# Altium schematic symbol library CHIP-Library.SCHLIB: 393 symbols (part 2 of 4)
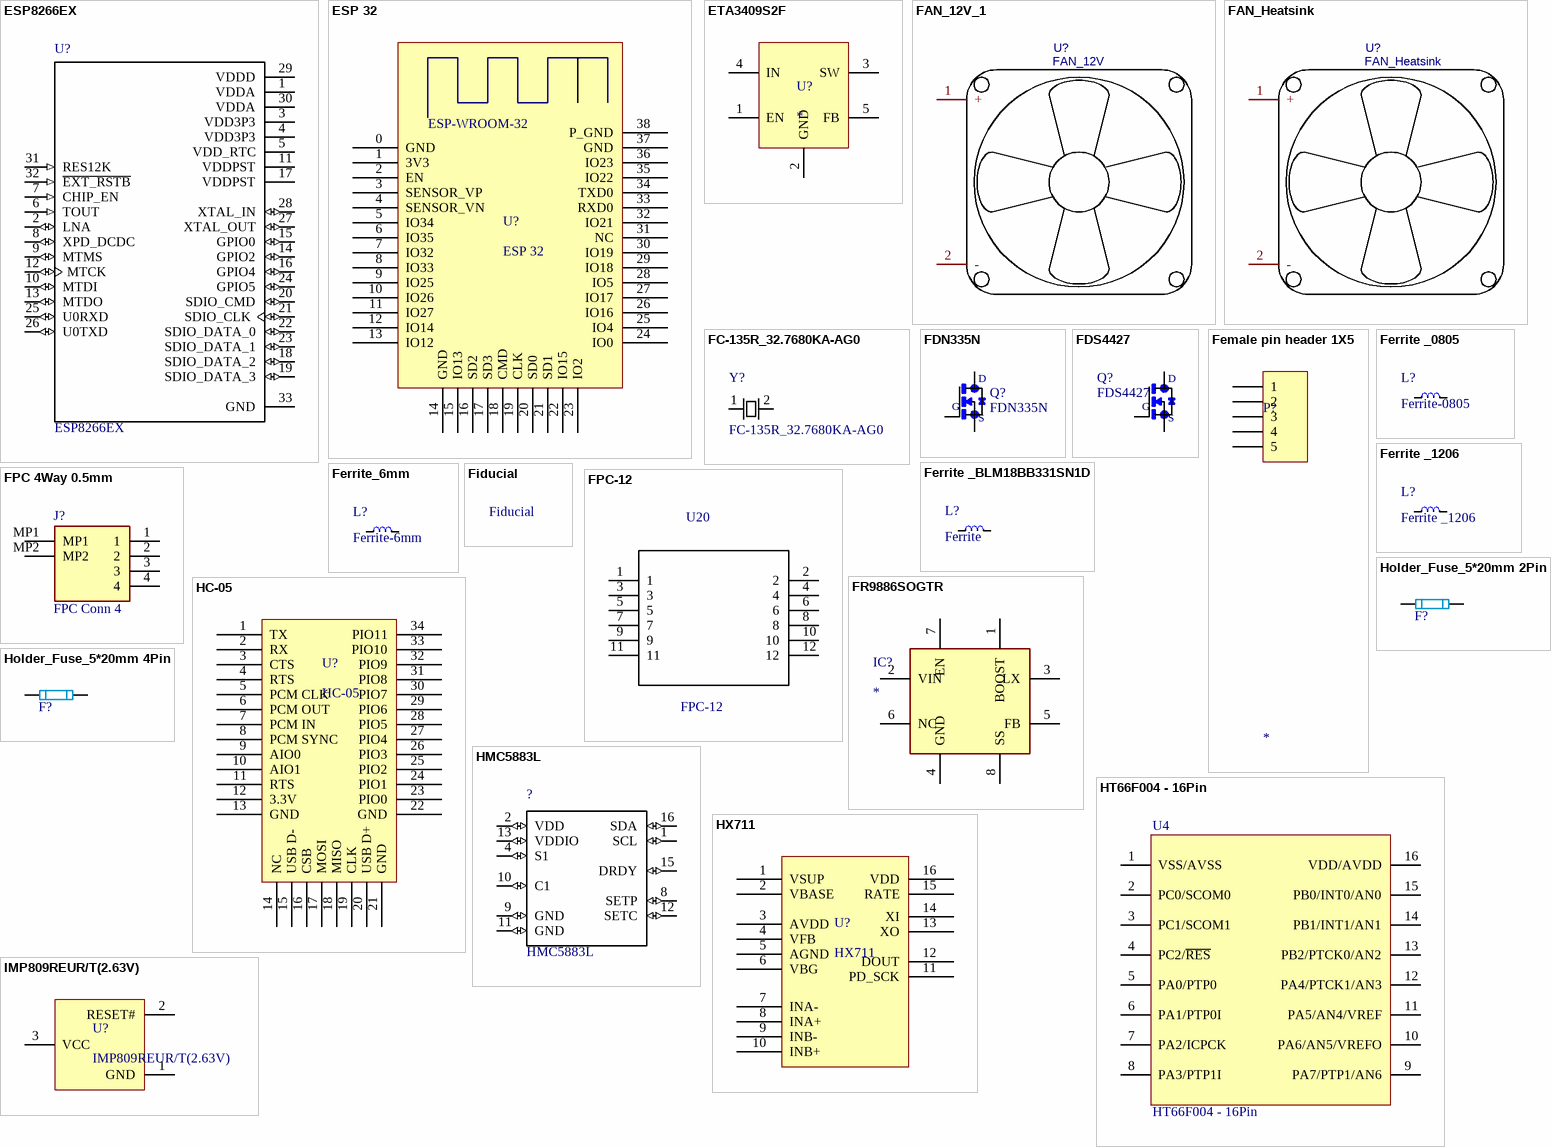
[diagram p16: symbols ESP8266EX to IMP809REUR/T(2.63V)]

## ESP 32
designator U?
footprint ESP 32
pins: 0 GND, 1 3V3, 2 EN, 3 SENSOR_VP, 4 SENSOR_VN, 5 IO34, 6 IO35, 7 IO32, 8 IO33, 9 IO25, 10 IO26, 11 IO27, 12 IO14, 13 IO12, 14 GND, 15 IO13, 16 SD2, 17 SD3, 18 CMD, 19 CLK, 20 SD0, 21 SD1, 22 IO15, 23 IO2, 24 IO0, 25 IO4, 26 IO16, 27 IO17, 28 IO5, 29 IO18, 30 IO19, 31 NC, 32 IO21, 33 RXD0, 34 TXD0, 35 IO22, 36 IO23, 37 GND, 38 P_GND
text: ESP-WROOM-32

## ETA3409S2F
designator U?
3MHz 1.5A/2A High ŋ Step-Down Converter in SOT23-5 Package
footprint SOT-23-5
pins: 1 EN, 2 GND, 3 SW, 4 IN, 5 FB

## FAN_12V_1
designator U?, comment FAN_12V
FAN 12V 40*40*10mm . XH Connector; Contributor: novasilisko; timeStamp: 1467237407; Manufacturer Part: ?; spicePre: U
footprint FAN_Connector XH (FAN_Connector XH 2.54mm)
pins: 1 +, 2 -

## FAN_Heatsink
designator U?
55mm Aluminum Heatsink with Cooling Fan; Contributor: novasilisko; timeStamp: 1467237407; Manufacturer Part: ?; spicePre: U
footprint FAN_Heatsink (55mm Aluminum Heatsink with Cooling Fan)
pins: 1 +, 2 -

## FC-135R_32.7680KA-AG0
designator Y?
Crystal 32.7680khz 7.0pf Smt; MF: EPSON; MP: FC-135R 32.7680KA-AG0; Availability: Unavailable; Price: None; Package: SMD-2 Epson; SnapEDA_Link: https://www.snapeda.com/parts/FC-135R%2032.7680KA-AG0/EPSON/view-part/?ref=snap; Value: *
footprint XTALL 32.76khz
pins: 1, 2

## FDN335N
designator Q?
N-Channel 20 V 0.07 Ohm 2.5 V Specified PowerTrench Mosfet SSOT-3; MF: ON Semiconductor; Price: None; SnapEDA_Link: https://www.snapeda.com/parts/FDN335N/ON%20Semiconductor/view-part/?ref=snap; Availability: Unavailable; MP: FDN335N; Package: SC-59 ON Semiconductor; Value: *
footprint FDN335N
pins: 1 G, 2 S, 3 D

## FDS4427
designator Q?
Check_prices: https://www.snapeda.com/parts/FDS2734/ON%20Semiconductor/view-part/1822193/?ref=eda; SnapEDA_Link: https://www.snapeda.com/parts/FDS2734/ON%20Semiconductor/view-part/1822193/?ref=snap; Value: *
footprint FDS4410
pins: D, G, S

## Female pin header 1X5
designator P?
Female pin header 1*5 2.54mm; LatestRevisionDate: 17-Jul-2002; LatestRevisionNote: Re-released for DXP Platform.; Publisher: Altium Limited
footprint Female pin header 1*5 (2.54MM)
pins: 1, 2, 3, 4, 5

## Ferrite _0805
designator L?, comment Ferrite-0805
BLM Series 0805 330 Ohm 400 mA 0.58 Ohm DCR Surface Mount Ferrite Bead; MF: Murata; MP: BLM18BB331SN1D; Package: 0603 Murata; Price: None; Availability: Unavailable; SnapEDA_Link: https://www.snapeda.com/parts/BLM18BB331SN1D/Murata%20Electronics%20North%20America/view-part/?ref=snap; Value: *
footprint Ferrite-0805
pins: 1, 2

## Ferrite _1206
designator L?
MF: Murata; MP: BLM18BB331SN1D; Package: 0603 Murata; Price: None; Availability: Unavailable; SnapEDA_Link: https://www.snapeda.com/parts/BLM18BB331SN1D/Murata%20Electronics%20North%20America/view-part/?ref=snap; Value: *
footprint FERRITE 1206 (1206)
pins: 1, 2

## Ferrite _BLM18BB331SN1D
designator L?, comment Ferrite
BLM Series 0603 330 Ohm 400 mA 0.58 Ohm DCR Surface Mount Ferrite Bead; MF: Murata; MP: BLM18BB331SN1D; Package: 0603 Murata; Price: None; Availability: Unavailable; SnapEDA_Link: https://www.snapeda.com/parts/BLM18BB331SN1D/Murata%20Electronics%20North%20America/view-part/?ref=snap; Value: *
footprint ferrit 0603
pins: 1, 2

## Ferrite_6mm
designator L?, comment Ferrite-6mm
MF: Murata; MP: BLM18BB331SN1D; Package: 0603 Murata; Price: None; Availability: Unavailable; SnapEDA_Link: https://www.snapeda.com/parts/BLM18BB331SN1D/Murata%20Electronics%20North%20America/view-part/?ref=snap; Value: *
footprint Ferrite_6mm
pins: 1, 2

## Fiducial
designator Q?
MF: Toshiba Semiconductor; MP: TPHR8504PL,L1Q; Package: SOP-8 Toshiba; Price: None; Value: *; SnapEDA_Link: https://www.snapeda.com/parts/TPHR8504PL,L1Q/Toshiba%20Semiconductor%20and%20Storage/view-part/604439/?ref=snap; Availability: Unavailable
footprint Fiducial
footprint Fiducial-2layer

## FPC 4Way 0.5mm
designator J?, comment FPC Conn 4
Molex 52745 0.5mm Pitch 4 Way Straight FPC Connector, ZIF Top Contact; Manufacturer_Part_Number: 52745-0497; Geometry.Height: 2mm; Manufacturer_Name: Molex; Mouser Part Number: 538-52745-0497; Mouser Price/Stock: https://www.mouser.co.uk/ProductDetail/Molex/52745-0497?qs=nDwhpid8gJYR8tmzpAxZKw%3D%3D; Arrow Part Number: *; Arrow Price/Stock: *; Datasheet Link: https://www.molex.com/pdm_docs/sd/527450497_sd.pdf
footprint 527450497
pins: 1, 2, 3, 4, MP1, MP2

## FPC-12
designator U20
Socket, r/a, Fpc, Zif, Smt, 10way; MP: 52892-1095; MF: Molex; Availability: Unavailable; SnapEDA_Link: https://www.snapeda.com/parts/52892-1095/Molex/view-part/?ref=snap; Package: None; Price: None; Value: *
footprint FPC-12-0.5mm
pins: 1, 2, 3, 4, 5, 6, 7, 8, 9, 10, 11, 12

## FR9886SOGTR
designator IC?
Regulator SOP-8; Manufacturer_Name: Fitipower; Manufacturer_Part_Number: FR9886SOGTR; Datasheet Link: https://www.insidegadgets.com/wp-content/uploads/2015/03/FR9886.pdf; Height: 1.75mm
footprint FR9886
pins: 1 BOOST, 2 VIN, 3 LX, 4 GND, 5 FB, 6 NC, 7 EN, 8 SS

## HC-05
designator U?
footprint HC-05 (Bluetooth module)
pins: 1 TX, 2 RX, 3 CTS, 4 RTS, 5 PCM CLK, 6 PCM OUT, 7 PCM IN, 8 PCM SYNC, 9 AIO0, 10 AIO1, 11 RTS, 12 3.3V, 13 GND, 14 NC, 15 USB D-, 16 CSB, 17 MOSI, 18 MISO, 19 CLK, 20 USB D+, 21 GND, 22 GND, 23 PIO0, 24 PIO1, 25 PIO2, 26 PIO3, 27 PIO4, 28 PIO5, 29 PIO6, 30 PIO7, 31 PIO8, 32 PIO9, 33 PIO10, 34 PIO11

## HMC5883L
designator ?
Digital Compass +/- 0.8g, Lcc-16; MF: Honeywell Aerospace; MP: HMC5883L-T; SnapEDA_Link: https://www.snapeda.com/parts/HMC5883L-T/Honeywell%20Aerospace/view-part/?ref=snap; Availability: Unavailable; Package: LCC-16 Honeywell; Price: None; Value: *
footprint *LPCC-16
pins: 1 SCL (io), 2 VDD (io), 4 S1 (io), 8 SETP (io), 9 GND (io), 10 C1 (io), 11 GND (io), 12 SETC (io), 13 VDDIO (io), 15 DRDY (io), 16 SDA (io)

## Holder_Fuse_5*20mm 2Pin
designator F?, comment FUSE  (value not drawn)
glass Holder Fuse 10mm
footprint Holder_Fuse - 20*5mm 2Pin
pins: 1, 2

## Holder_Fuse_5*20mm 4Pin
designator F?, comment FUSE  (value not drawn)
glass Holder Fuse 10mm
footprint Holder_Fuse 20*5mm 4Pin
pins: 1, 2

## HT66F004 - 16Pin
designator U4
footprint HT66F004 - 16Pin (NSOP-16)
pins: 1 VSS/AVSS, 2 PC0/SCOM0, 3 PC1/SCOM1, 4 PC2/~{RES}, 5 PA0/PTP0, 6 PA1/PTP0I, 7 PA2/ICPCK, 8 PA3/PTP1I, 9 PA7/PTP1/AN6, 10 PA6/AN5/VREFO, 11 PA5/AN4/VREF, 12 PA4/PTCK1/AN3, 13 PB2/PTCK0/AN2, 14 PB1/INT1/AN1, 15 PB0/INT0/AN0, 16 VDD/AVDD

## HX711
designator U?
footprint DBQ016 (SSOP; 16 Leads; Body Width 3.9 mm; Pitch 0.635 mm)
pins: 1 VSUP, 2 VBASE, 3 AVDD, 4 VFB, 5 AGND, 6 VBG, 7 INA-, 8 INA+, 9 INB-, 10 INB+, 11 PD_SCK, 12 DOUT, 13 XO, 14 XI, 15 RATE, 16 VDD

## IMP809REUR/T(2.63V)
designator U?
Power Supply Supervisor
footprint SOT23-3 (SOT23, 3 pin)
pins: 1 GND, 2 RESET#, 3 VCC

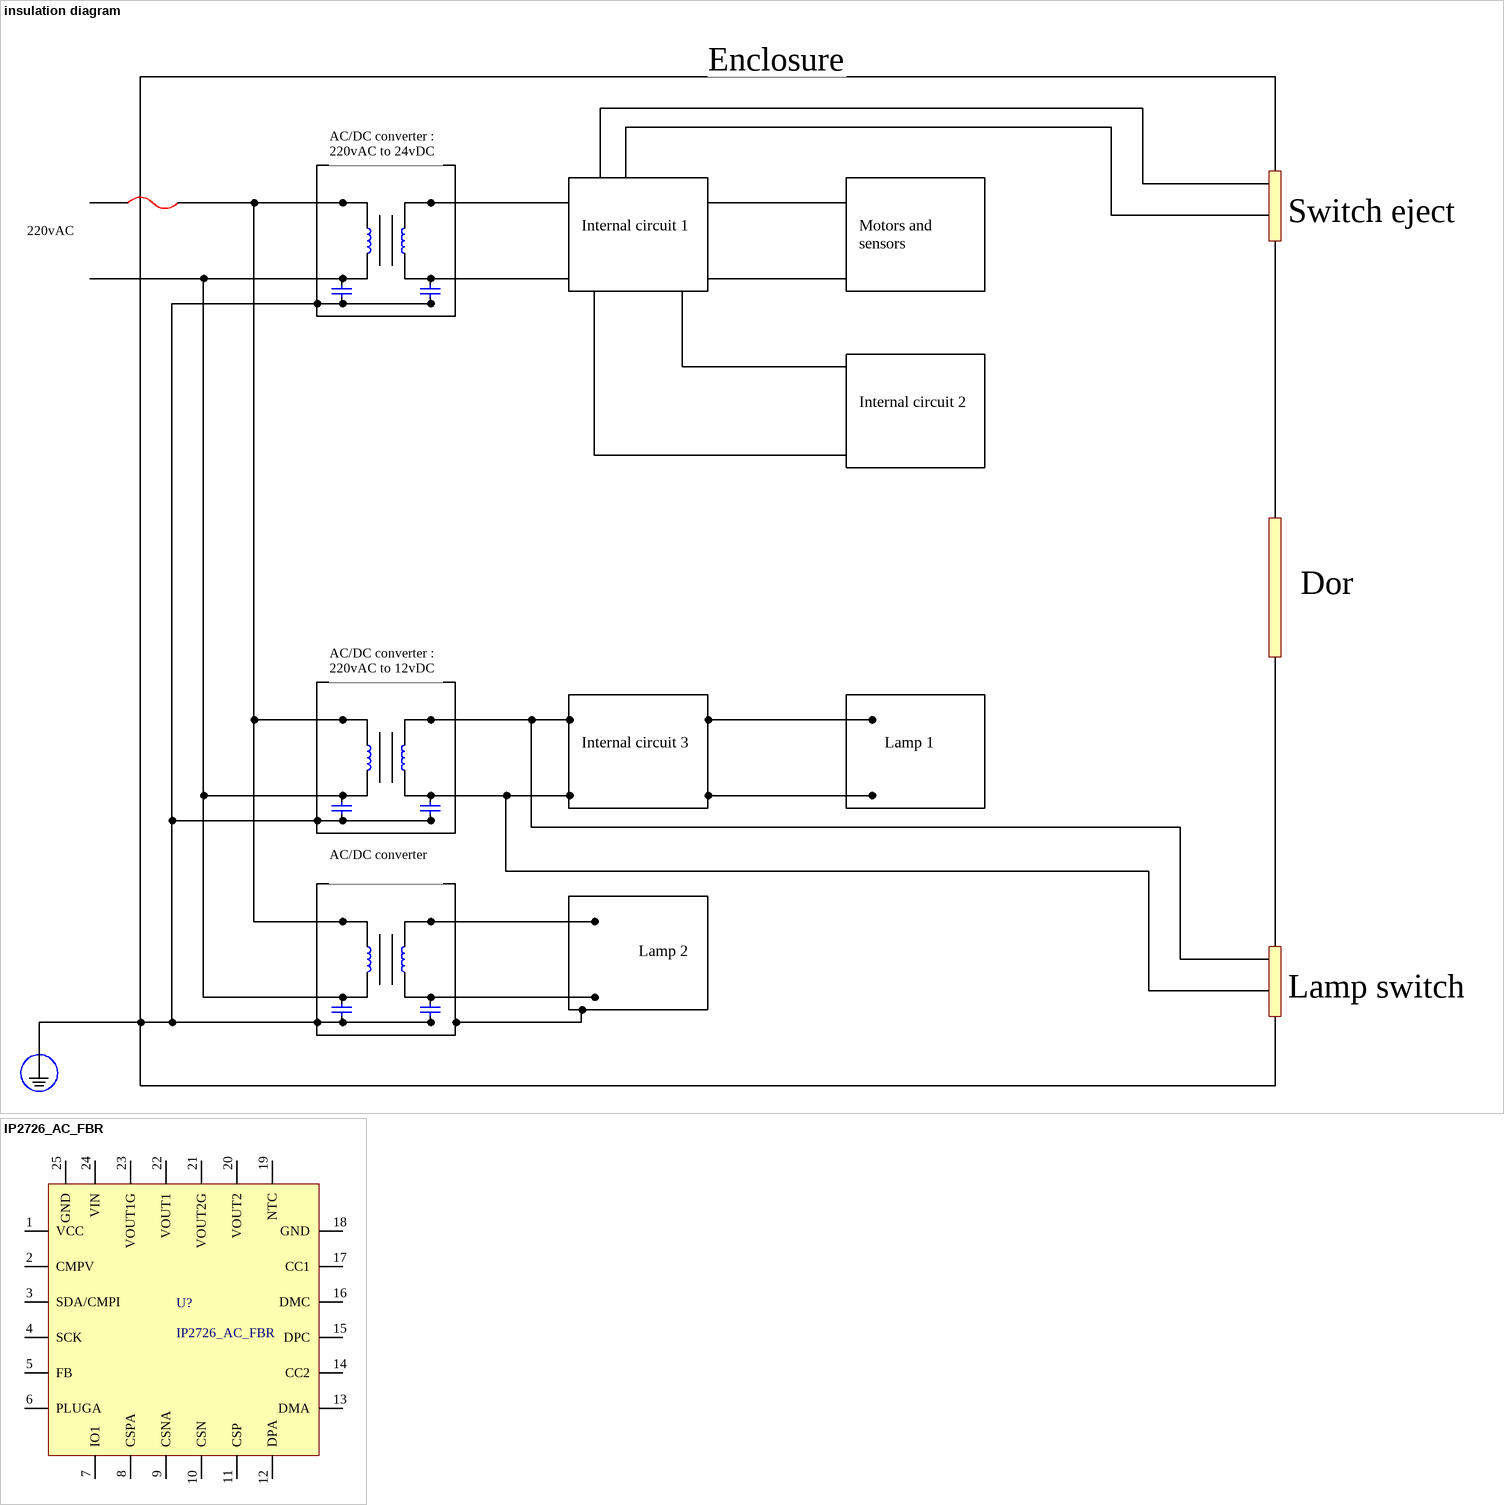
[diagram p6: symbols insulation diagram to IP2726_AC_FBR]

## insulation diagram
designator d?  (value not drawn)
pins: 1, 1, 1, 1, 1, 1, 2, 2, 2, 2, 2, 2
text: Enclosure; AC/DC converter : 220vAC to 24vDC; Switch eject; Internal circuit 1; Motors and sensors; 220vAC; Internal circuit 2; Dor; AC/DC converter : 220vAC to 12vDC; Lamp 1; Internal circuit 3; AC/DC converter; Lamp 2; Lamp switch

## IP2726_AC_FBR
designator U?
footprint IP2726_AC_FBR-QFN24-4*4mm
pins: 1 VCC, 2 CMPV, 3 SDA/CMPI, 4 SCK, 5 FB, 6 PLUGA, 7 IO1, 8 CSPA, 9 CSNA, 10 CSN, 11 CSP, 12 DPA, 13 DMA, 14 CC2, 15 DPC, 16 DMC, 17 CC1, 18 GND, 19 NTC, 20 VOUT2, 21 VOUT2G, 22 VOUT1, 23 VOUT1G, 24 VIN, 25 GND

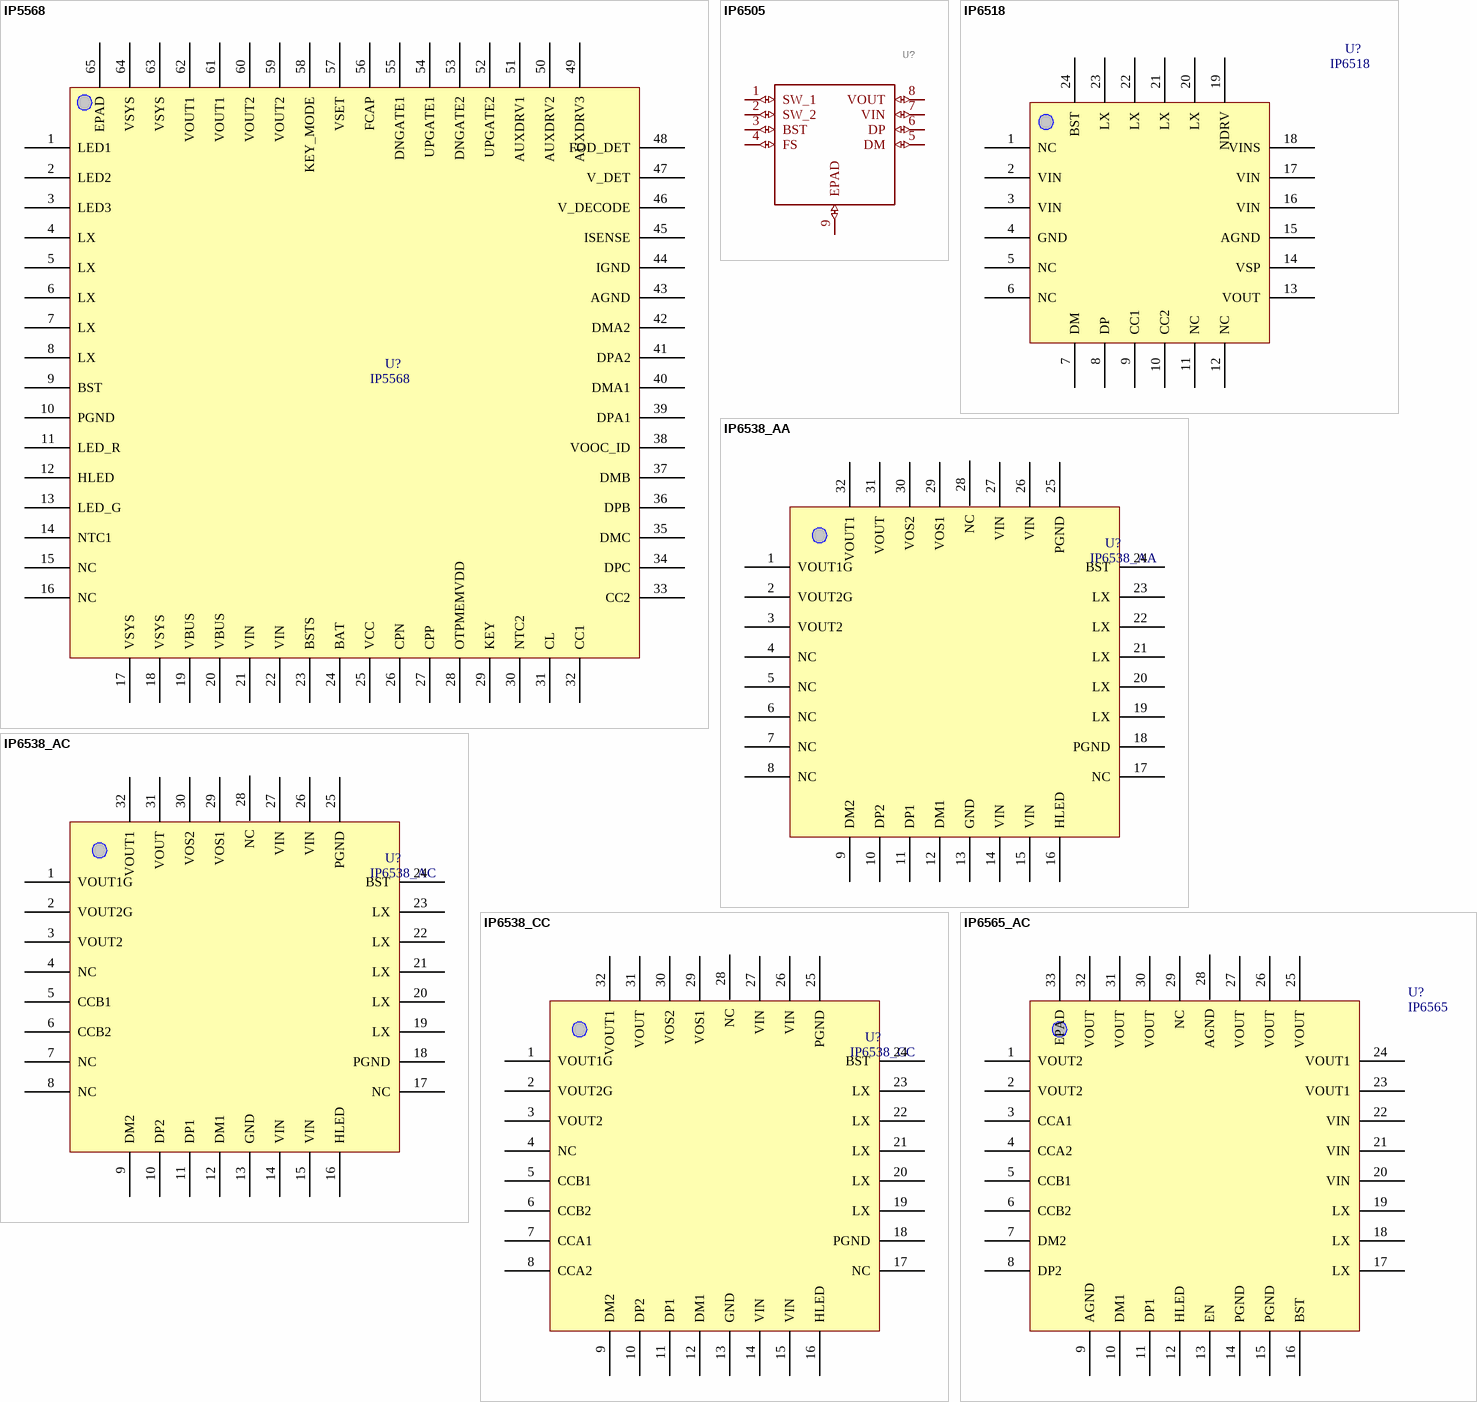
[diagram p7: symbols IP5568 to IP6565_AC]

## IP5568
designator U?
Power Bank And Wireless Charger 15w
footprint IP5568
pins: 1 LED1, 2 LED2, 3 LED3, 4 LX, 5 LX, 6 LX, 7 LX, 8 LX, 9 BST, 10 PGND, 11 LED_R, 12 HLED, 13 LED_G, 14 NTC1, 15 NC, 16 NC, 17 VSYS, 18 VSYS, 19 VBUS, 20 VBUS, 21 VIN, 22 VIN, 23 BSTS, 24 BAT, 25 VCC, 26 CPN, 27 CPP, 28 OTPMEMVDD, 29 KEY, 30 NTC2, 31 CL, 32 CC1, 33 CC2, 34 DPC, 35 DMC, 36 DPB, 37 DMB, 38 VOOC_ID, 39 DPA1, 40 DMA1, 41 DPA2, 42 DMA2, 43 AGND, 44 IGND, 45 ISENSE, 46 V_DECODE, 47 V_DET, 48 FOD_DET, 49 AUXDRV3, 50 AUXDRV2, 51 AUXDRV1, 52 UPGATE2, 53 DNGATE2, 54 UPGATE1, 55 DNGATE1, 56 FCAP, 57 VSET, 58 KEY_MODE, 59 VOUT2, 60 VOUT2, 61 VOUT1, 62 VOUT1, 63 VSYS, 64 VSYS, 65 EPAD

## IP6505
designator U?
FAST CHARGER 9-30  ESOP_8; Manufacturer_Name: INJOINIC; GateName_1: G$1; SymbolName_1: IP6505; LibraryName: IP6505; DeviceSetName: IP6505; Package: SOIC127P600X165-9N; Manufacturer_Part_Number: IP6505; Height: 1.65mm
footprint IP6505
pins: 1 SW_1 (io), 2 SW_2 (io), 3 BST (io), 4 FS (io), 5 DM (io), 6 DP (io), 7 VIN (io), 8 VOUT (io), 9 EPAD (io)

## IP6518
designator U?
DC DC 45 W FAST CHARER TYPE C
footprint IP6518 (DC DC 45W FAST CHAREGR TYPE C)
pins: 1 NC, 2 VIN, 3 VIN, 4 GND, 5 NC, 6 NC, 7 DM, 8 DP, 9 CC1, 10 CC2, 11 NC, 12 NC, 13 VOUT, 14 VSP, 15 AGND, 16 VIN, 17 VIN, 18 VINS, 19 NDRV, 20 LX, 21 LX, 22 LX, 23 LX, 24 BST

## IP6538_AA
designator U?
DC DC FAST CHARGER TYPE C DUAL
footprint IP6538 (15w Wirless charger ic)
pins: 1 VOUT1G, 2 VOUT2G, 3 VOUT2, 4 NC, 5 NC, 6 NC, 7 NC, 8 NC, 9 DM2, 10 DP2, 11 DP1, 12 DM1, 13 GND, 14 VIN, 15 VIN, 16 HLED, 17 NC, 18 PGND, 19 LX, 20 LX, 21 LX, 22 LX, 23 LX, 24 BST, 25 PGND, 26 VIN, 27 VIN, 28 NC, 29 VOS1, 30 VOS2, 31 VOUT, 32 VOUT1

## IP6538_AC
designator U?
DC DC FAST CHARGER TYPE C DUAL
footprint IP6538 (15w Wirless charger ic)
pins: 1 VOUT1G, 2 VOUT2G, 3 VOUT2, 4 NC, 5 CCB1, 6 CCB2, 7 NC, 8 NC, 9 DM2, 10 DP2, 11 DP1, 12 DM1, 13 GND, 14 VIN, 15 VIN, 16 HLED, 17 NC, 18 PGND, 19 LX, 20 LX, 21 LX, 22 LX, 23 LX, 24 BST, 25 PGND, 26 VIN, 27 VIN, 28 NC, 29 VOS1, 30 VOS2, 31 VOUT, 32 VOUT1

## IP6538_CC
designator U?
DC DC FAST CHARGER TYPE C DUAL
footprint IP6538 (15w Wirless charger ic)
pins: 1 VOUT1G, 2 VOUT2G, 3 VOUT2, 4 NC, 5 CCB1, 6 CCB2, 7 CCA1, 8 CCA2, 9 DM2, 10 DP2, 11 DP1, 12 DM1, 13 GND, 14 VIN, 15 VIN, 16 HLED, 17 NC, 18 PGND, 19 LX, 20 LX, 21 LX, 22 LX, 23 LX, 24 BST, 25 PGND, 26 VIN, 27 VIN, 28 NC, 29 VOS1, 30 VOS2, 31 VOUT, 32 VOUT1

## IP6565_AC
designator U?, comment IP6565
DC DC FAST CHARGER
footprint IP6565 (QFN32 4*4)
pins: 1 VOUT2, 2 VOUT2, 3 CCA1, 4 CCA2, 5 CCB1, 6 CCB2, 7 DM2, 8 DP2, 9 AGND, 10 DM1, 11 DP1, 12 HLED, 13 EN, 14 PGND, 15 PGND, 16 BST, 17 LX, 18 LX, 19 LX, 20 VIN, 21 VIN, 22 VIN, 23 VOUT1, 24 VOUT1, 25 VOUT, 26 VOUT, 27 VOUT, 28 AGND, 29 NC, 30 VOUT, 31 VOUT, 32 VOUT, 33 EPAD

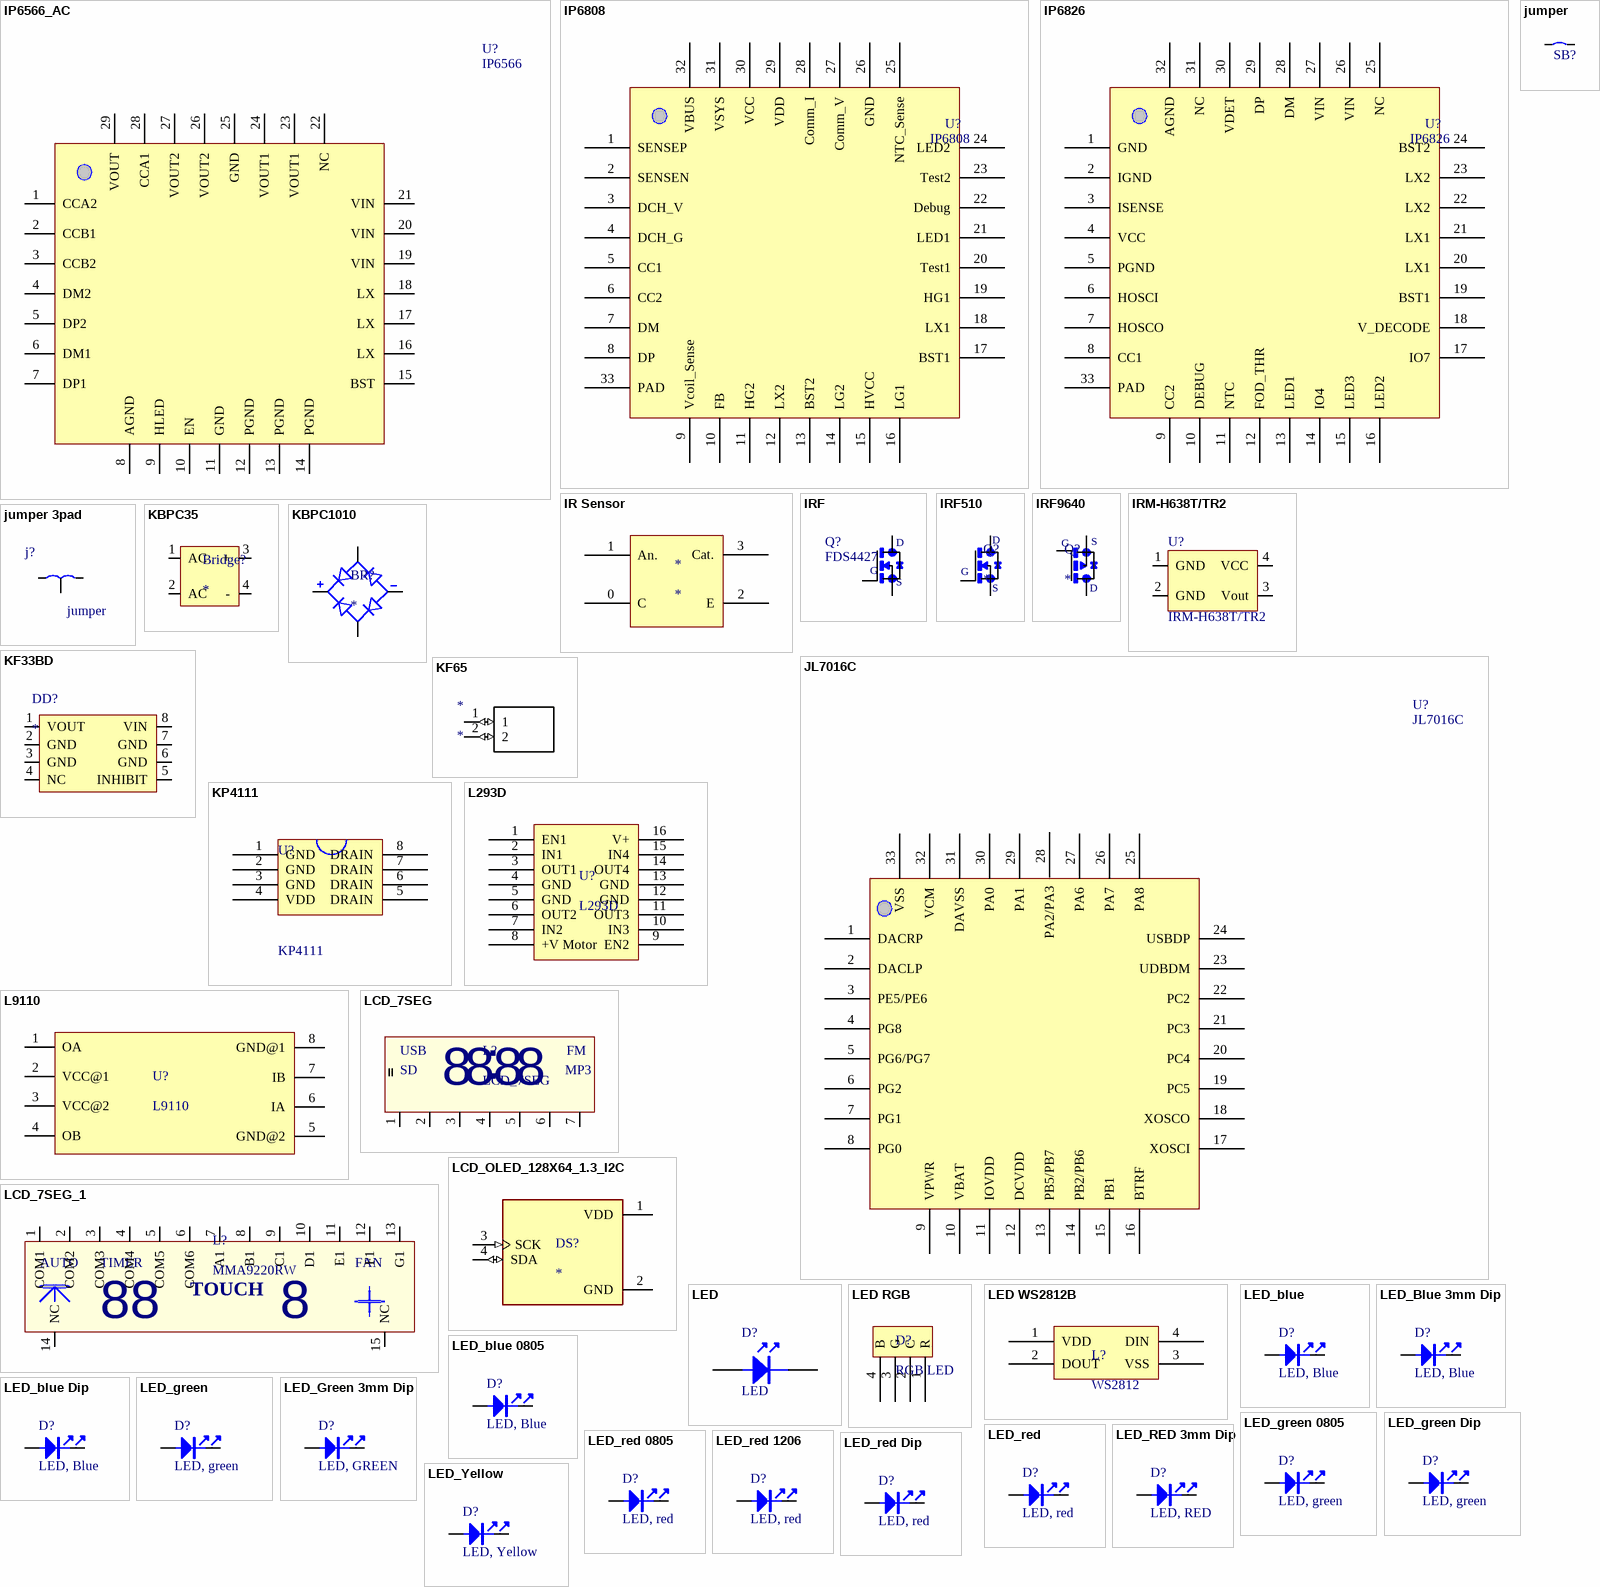
[diagram p8: symbols IP6566_AC to LED_Yellow]

## IP6566_AC
designator U?, comment IP6566
footprint IP6566
pins: 1 CCA2, 2 CCB1, 3 CCB2, 4 DM2, 5 DP2, 6 DM1, 7 DP1, 8 AGND, 9 HLED, 10 EN, 11 GND, 12 PGND, 13 PGND, 14 PGND, 15 BST, 16 LX, 17 LX, 18 LX, 19 VIN, 20 VIN, 21 VIN, 22 NC, 23 VOUT1, 24 VOUT1, 25 GND, 26 VOUT2, 27 VOUT2, 28 CCA1, 29 VOUT

## IP6808
designator U?
Wireless Charger 10W
footprint IP6826 (15w Wirless charger ic)
pins: 1 SENSEP, 2 SENSEN, 3 DCH_V, 4 DCH_G, 5 CC1, 6 CC2, 7 DM, 8 DP, 9 Vcoil_Sense, 10 FB, 11 HG2, 12 LX2, 13 BST2, 14 LG2, 15 HVCC, 16 LG1, 17 BST1, 18 LX1, 19 HG1, 20 Test1, 21 LED1, 22 Debug, 23 Test2, 24 LED2, 25 NTC_Sense, 26 GND, 27 Comm_V, 28 Comm_I, 29 VDD, 30 VCC, 31 VSYS, 32 VBUS, 33 PAD

## IP6826
designator U?
Wireless Charger 15w
footprint IP6826 (15w Wirless charger ic)
pins: 1 GND, 2 IGND, 3 ISENSE, 4 VCC, 5 PGND, 6 HOSCI, 7 HOSCO, 8 CC1, 9 CC2, 10 DEBUG, 11 NTC, 12 FOD_THR, 13 LED1, 14 IO4, 15 LED3, 16 LED2, 17 IO7, 18 V_DECODE, 19 BST1, 20 LX1, 21 LX1, 22 LX2, 23 LX2, 24 BST2, 25 NC, 26 VIN, 27 VIN, 28 DM, 29 DP, 30 VDET, 31 NC, 32 AGND, 33 PAD

## IR Sensor
designator *
footprint IR PRO
footprint Model Name (Model Description)
pins: 0 C, 1 An., 2 E, 3 Cat.

## IRF
designator Q?, comment FDS4427
Check_prices: https://www.snapeda.com/parts/FDS2734/ON%20Semiconductor/view-part/1822193/?ref=eda; SnapEDA_Link: https://www.snapeda.com/parts/FDS2734/ON%20Semiconductor/view-part/1822193/?ref=snap; Value: *
footprint FDS4410
pins: D, G, S

## IRF510
designator Q?
N-Channel 100V 5.6A (Tc) 43W (Tc) Through Hole TO-220AB; MP: IRF510; MF: Vishay Siliconix; Package: TO-220-3 ON Semiconductor; Value: *; Price: None; Availability: Bad; SnapEDA_Link: https://www.snapeda.com/parts/IRF510/Vishay%20Siliconix/view-part/2759039/?ref=snap; Check_prices: https://www.snapeda.com/parts/IRF510/Vishay%20Siliconix/view-part/2759039/?ref=eda
footprint IRF510
pins: 1 S, 2 D, 3 G

## IRF9640
designator Q?
P-Channel 200V 11A _Tc_ 125W _Tc_ Through Hole TO-220AB; MP: IRF9640; MF: Vishay / Siliconix; SnapEDA_Link: https://www.snapeda.com/parts/IRF9640/Vishay%20Siliconix/view-part/4544771/?ref=snap; Price: None; Package: TO-220-3 Vishay / Siliconix; Value: *; Availability: Unavailable
footprint IRF9640
pins: 1 G, 2 D, 3 S

## IRM-H638T/TR2
designator U?
footprint IRM-H638T/TR2
pins: 1 GND, 2 GND, 3 Vout, 4 VCC

## JL7016C
designator U?
BlE Chip
footprint JL7016C (QFN32 4*4)
pins: 1 DACRP, 2 DACLP, 3 PE5/PE6, 4 PG8, 5 PG6/PG7, 6 PG2, 7 PG1, 8 PG0, 9 VPWR, 10 VBAT, 11 IOVDD, 12 DCVDD, 13 PB5/PB7, 14 PB2/PB6, 15 PB1, 16 BTRF, 17 XOSCI, 18 XOSCO, 19 PC5, 20 PC4, 21 PC3, 22 PC2, 23 UDBDM, 24 USBDP, 25 PA8, 26 PA7, 27 PA6, 28 PA2/PA3, 29 PA1, 30 PA0, 31 DAVSS, 32 VCM, 33 VSS

## jumper
designator SB?  (value not drawn)
Circuit Breaker; Solder: NO; Revision: July-2002: Re-released for DXP Platform.
footprint JP2_SMD
pins: 1, 2

## jumper 3pad
designator j?, comment jumper
MP: CSTCE16M0V53-R0; MF: Murata; Availability: Unavailable; Package: SMD-3 Murata; Price: None; SnapEDA_Link: https://www.snapeda.com/parts/CSTCE16M0V53-R0/Murata%20Electronics%20North%20America/view-part/?ref=snap; Value: *
footprint Jumper_3
pins: 1, 2 (power), 3

## KBPC35
designator Bridge?
footprint KBPC35
pins: 1 AC, 2 AC, 3 +, 4 -

## KBPC1010
designator BR?
Bridge Rectifier; Manufacturer_Name: MDD£¨Microdiode Electronics£©; Manufacturer_Part_Number: KBPC1010; Datasheet Link: https://datasheet.lcsc.com/szlcsc/1903051202_MDD-Jiangsu-Yutai-Elec-KBPC1010_C3082.pdf; Height: 5.4mm
footprint KBPC1010
pins: 1 P, 2 AC1, 3 N, 4 AC2

## KF33BD
designator DD?
footprint KF33BD
pins: 1 VOUT, 2 GND, 3 GND, 4 NC, 5 INHIBIT, 6 GND, 7 GND, 8 VIN

## KF65
designator *
footprint KF65
pins: 1 (io), 2 (io)

## KP4111
designator U?
Secondary Side Synchronous Rectifier
footprint KP4111 (Secondary Side Synchronous Rectifier  SOP-8)
pins: 1 GND, 2 GND, 3 GND, 4 VDD, 5 DRAIN, 6 DRAIN, 7 DRAIN, 8 DRAIN

## L293D
designator U?
Motor Driver
footprint N016 (DIP; 16 Leads; Row Spacing 7.62 mm; Pitch 2.54 mm)
pins: 1 EN1, 2 IN1, 3 OUT1, 4 GND, 5 GND, 6 OUT2, 7 IN2, 8 +V Motor, 9 EN2, 10 IN3, 11 OUT3, 12 GND, 13 GND, 14 OUT4, 15 IN4, 16 V+

## L9110
designator U?
footprint L9110
pins: 1 OA, 2 VCC@1, 3 VCC@2, 4 OB, 5 GND@2, 6 IA, 7 IB, 8 GND@1

## LCD_7SEG
designator L?
Custom LCD_7SEG
footprint LCD-7SEG
pins: 1, 2, 3, 4, 5, 6, 7
text: USB; FM; SD; MP3; :; 8

## LCD_7SEG_1
designator L?, comment MMA9220RW
Custom LCD_7SEG MMA9220RW
footprint LCD-7SEG_Hood_MMA9220RW (MMA9220RW)
pins: 1 COM1, 2 COM2, 3 COM3, 4 COM4, 5 COM5, 6 COM6, 7 A1, 8 B1, 9 C1, 10 D1, 11 E1, 12 F1, 13 G1, 14 NC, 15 NC
text: AUTO; TIMER; FAN; TOUCH

## LCD_OLED_128X64_1.3_I2C
designator DS?
Non-Touch Graphic LCD Display Module Transmissive White OLED, Monochrome I2C 1.3 (33.02mm) 128 x 64; MF: UNIVERSAL-SOLDER Electronics Ltd; MP: OLED 128x64 1.3&quot; I2C; SnapEDA_Link: https://www.snapeda.com/parts/OLED%20128x64%201.3%22%20I2C/UNIVERSAL-SOLDER+Electronics+Ltd/view-part/?ref=snap; Package: None; Value: *; Check_prices: https://www.snapeda.com/parts/OLED%20128x64%201.3%22%20I2C/UNIVERSAL-SOLDER+Electronics+Ltd/view-part/?ref=eda
footprint LCD_OLED_128X64_1.3_I2C
pins: 1 VDD (power), 2 GND (power), 3 SCK (in), 4 SDA (io)

## LED
designator D?
footprint LED; pin to pad A>1 K>2
pins: A 1, K 2

## LED RGB
designator D?, comment RGB LED
footprint LED RGB (5mm RGB LED)
pins: 1 R, 2 C, 3 G, 4 B

## LED WS2812B
designator L?, comment WS2812
RGB LED
footprint LED WS2812B (Intelligent control LED  integrated light source)
pins: 1 VDD, 2 DOUT, 3 VSS, 4 DIN

## LED_blue
designator D?, comment LED, Blue
LED, Blue, 0603; Manuf_1: everlight; Manuf_Part_1: 19-213-R6C-AP1Q2B/3T; ECCN_US/EU: EAR99/NEC; Order: 19-213-R6C-AP1Q2B/3T
footprint LED-0603-BLUE
pins: 1, 2
2 alternate drawings of the same symbol

## LED_Blue 3mm Dip
designator D?, comment LED, Blue
LED, Yellow,; Manuf_1: everlight; Manuf_Part_1: 19-213-R6C-AP1Q2B/3T; ECCN_US/EU: EAR99/NEC; Order: 19-213-R6C-AP1Q2B/3T
footprint LED3mm_Blue
pins: 1, 2
2 alternate drawings of the same symbol

## LED_blue 0805
designator D?, comment LED, Blue
LED, Blue, 0805; Manuf_1: everlight; Manuf_Part_1: 19-213-R6C-AP1Q2B/3T; ECCN_US/EU: EAR99/NEC; Order: 19-213-R6C-AP1Q2B/3T
footprint LED-0805-BLUE
pins: 1, 2
2 alternate drawings of the same symbol

## LED_blue Dip
designator D?, comment LED, Blue
LED, Blue,; Manuf_1: everlight; Manuf_Part_1: 19-213-R6C-AP1Q2B/3T; ECCN_US/EU: EAR99/NEC; Order: 19-213-R6C-AP1Q2B/3T
footprint LED5MM_BLUE (LED 5MM THROUGH HOLE BLUE-Designer Abbas Basereh)
pins: 1, 2
2 alternate drawings of the same symbol

## LED_green
designator D?, comment LED, green
LED, green, 0603; Manuf_1: everlight; Manuf_Part_1: 19-213SYGC/S530-E2/TR8; ECCN_US/EU: EAR99/NEC; Order: 19-213SYGC/S530-E2/TR8
footprint LED-0603-GREEN
pins: 1, 2
2 alternate drawings of the same symbol

## LED_Green 3mm Dip
designator D?, comment LED, GREEN
LED, Yellow,; Manuf_1: everlight; Manuf_Part_1: 19-213-R6C-AP1Q2B/3T; ECCN_US/EU: EAR99/NEC; Order: 19-213-R6C-AP1Q2B/3T
footprint LED3mm_GRN
pins: 1, 2
2 alternate drawings of the same symbol

## LED_green 0805
designator D?, comment LED, green
LED, green, 0805; Manuf_1: everlight; Manuf_Part_1: 19-213SYGC/S530-E2/TR8; ECCN_US/EU: EAR99/NEC; Order: 19-213SYGC/S530-E2/TR8
footprint LED-0805-GREEN
pins: 1, 2
2 alternate drawings of the same symbol

## LED_green Dip
designator D?, comment LED, green
LED, green,; Manuf_1: everlight; Manuf_Part_1: 19-213SYGC/S530-E2/TR8; ECCN_US/EU: EAR99/NEC; Order: 19-213SYGC/S530-E2/TR8
footprint LED5MM_GRN (LED 5MM THROUGH HOLE GREEN-Designer Abbas Basereh)
pins: 1, 2
2 alternate drawings of the same symbol

## LED_red
designator D?, comment LED, red
LED, red, 0603; Manuf_1: everlight; Manuf_Part_1: 19-213-R6C-AP1Q2B/3T; ECCN_US/EU: EAR99/NEC; Order: 19-213-R6C-AP1Q2B/3T
footprint LED-0603-RED
pins: 1, 2
2 alternate drawings of the same symbol

## LED_RED 3mm Dip
designator D?, comment LED, RED
LED, Yellow,; Manuf_1: everlight; Manuf_Part_1: 19-213-R6C-AP1Q2B/3T; ECCN_US/EU: EAR99/NEC; Order: 19-213-R6C-AP1Q2B/3T
footprint LED3mm_RED
pins: 1, 2
2 alternate drawings of the same symbol

## LED_red 0805
designator D?, comment LED, red
LED, red, 0805; Manuf_1: everlight; Manuf_Part_1: 19-213-R6C-AP1Q2B/3T; ECCN_US/EU: EAR99/NEC; Order: 19-213-R6C-AP1Q2B/3T
footprint LED-0805-RED
pins: 1, 2
2 alternate drawings of the same symbol

## LED_red 1206
designator D?, comment LED, red
LED, red, 1206; Manuf_1: everlight; Manuf_Part_1: 19-213-R6C-AP1Q2B/3T; ECCN_US/EU: EAR99/NEC; Order: 19-213-R6C-AP1Q2B/3T
footprint LED 1206
pins: 1, 2
2 alternate drawings of the same symbol

## LED_red Dip
designator D?, comment LED, red
LED, red,; Manuf_1: everlight; Manuf_Part_1: 19-213-R6C-AP1Q2B/3T; ECCN_US/EU: EAR99/NEC; Order: 19-213-R6C-AP1Q2B/3T
footprint LED5MM_RED (LED 5MM THROUGH HOLE RED-Designer Abbas Basereh)
pins: 1, 2
2 alternate drawings of the same symbol

## LED_Yellow
designator D?, comment LED, Yellow
LED, Yellow, 0603; Manuf_1: everlight; Manuf_Part_1: 19-213-R6C-AP1Q2B/3T; ECCN_US/EU: EAR99/NEC; Order: 19-213-R6C-AP1Q2B/3T
footprint LED-0603-YELLOW
pins: 1, 2
2 alternate drawings of the same symbol

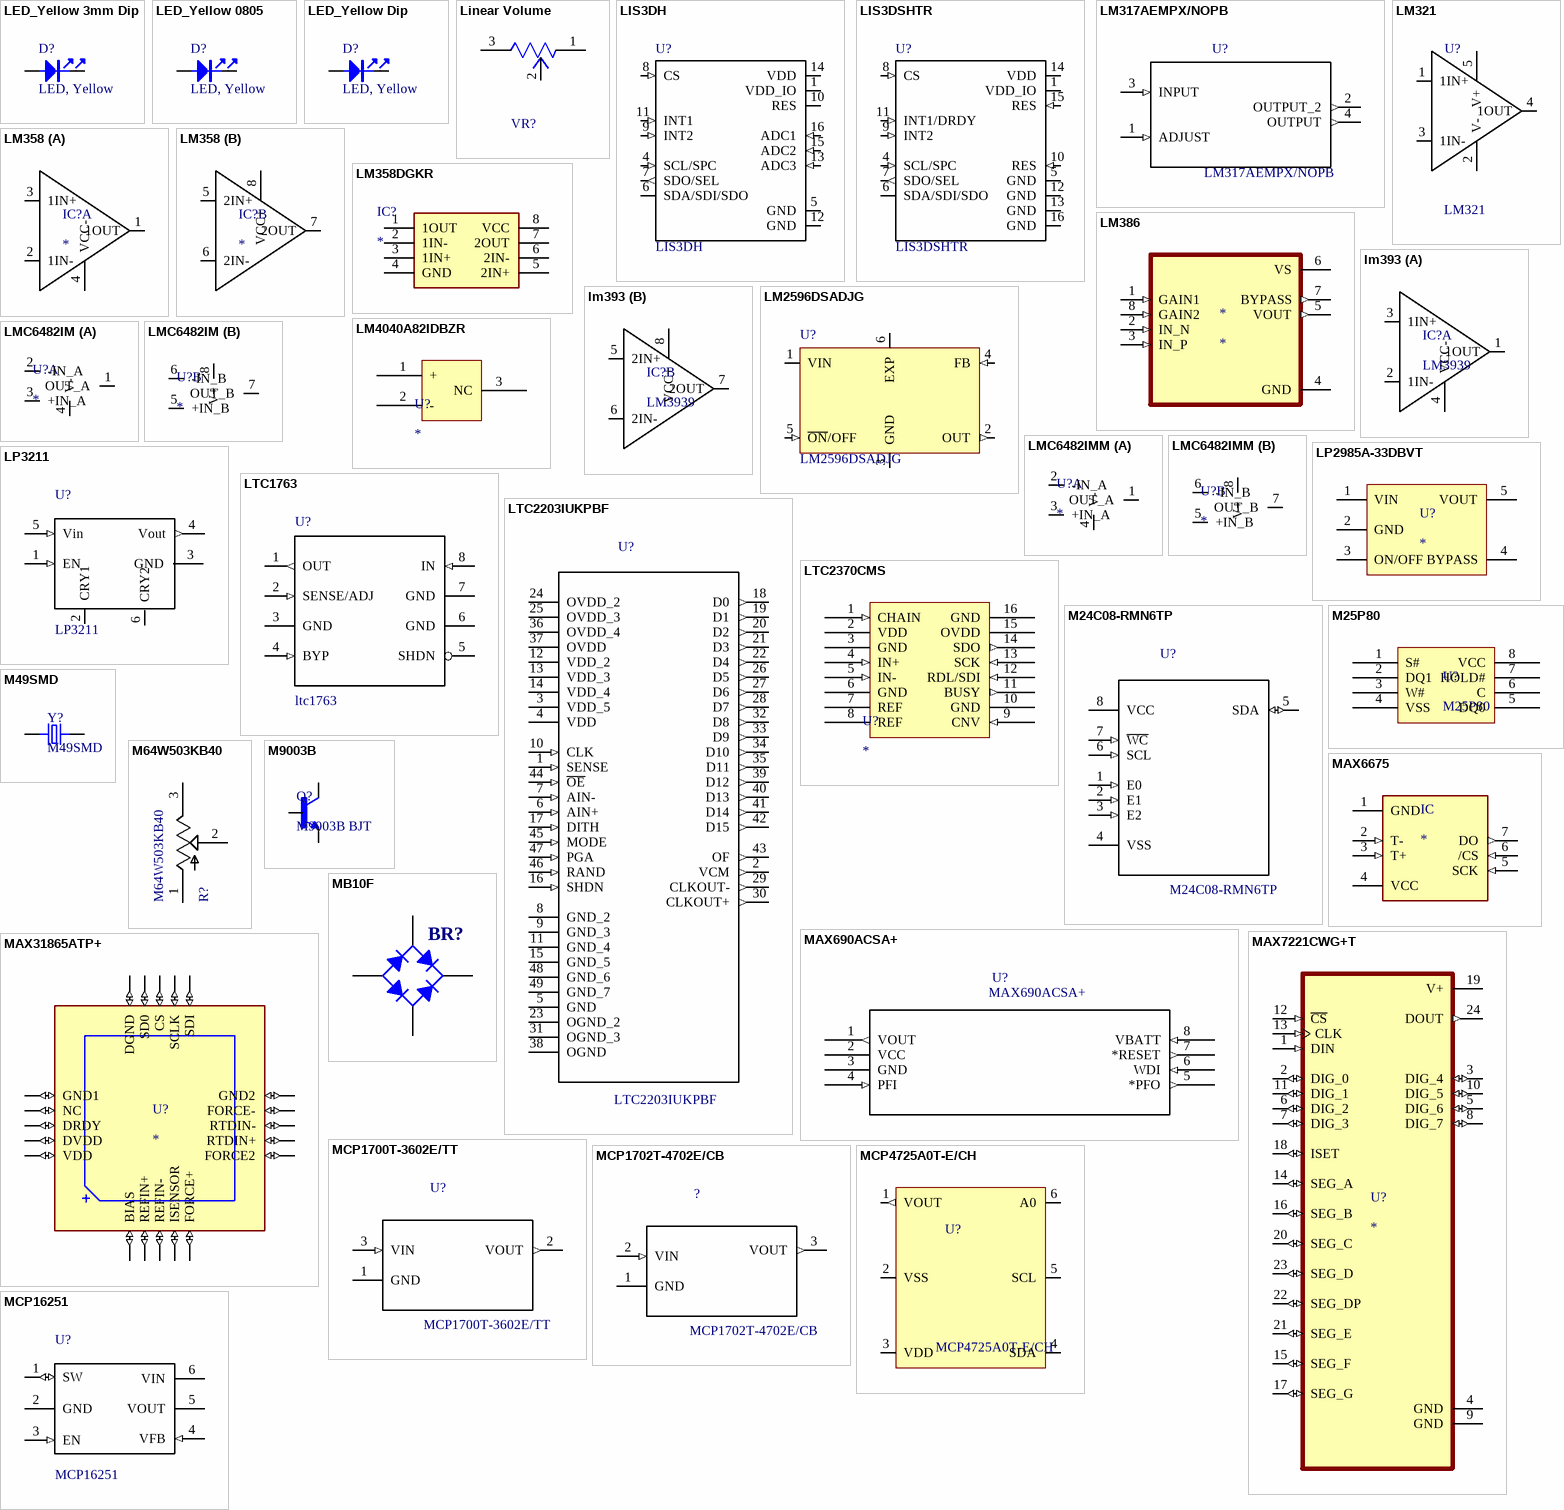
[diagram p9: symbols LED_Yellow 3mm Dip to MCP16251]

## LED_Yellow 3mm Dip
designator D?, comment LED, Yellow
LED, Yellow,; Manuf_1: everlight; Manuf_Part_1: 19-213-R6C-AP1Q2B/3T; ECCN_US/EU: EAR99/NEC; Order: 19-213-R6C-AP1Q2B/3T
footprint LED3mm_Yellow
pins: 1, 2
2 alternate drawings of the same symbol

## LED_Yellow 0805
designator D?, comment LED, Yellow
LED, Yellow, 0805; Manuf_1: everlight; Manuf_Part_1: 19-213-R6C-AP1Q2B/3T; ECCN_US/EU: EAR99/NEC; Order: 19-213-R6C-AP1Q2B/3T
footprint LED-0805-YELLOW
pins: 1, 2
2 alternate drawings of the same symbol

## LED_Yellow Dip
designator D?, comment LED, Yellow
LED, Yellow,; Manuf_1: everlight; Manuf_Part_1: 19-213-R6C-AP1Q2B/3T; ECCN_US/EU: EAR99/NEC; Order: 19-213-R6C-AP1Q2B/3T
footprint LED5MM_YELLOW (LED 5MM THROUGH HOLE YELLOW-Designer Abbas Basereh)
pins: 1, 2
2 alternate drawings of the same symbol

## Linear Volume
designator VR?
RES 10k Ohm 1 Gang Linear Panel Mount Potentiometer None 1 Turn Conductive Plastic 0.2W, 1/5W PC Pins; Manufacturer: TT Electronics; Resistance: 10kΩ; Value: 10kΩ; power_rating: 200 mW; Category 7542B8484461Ae85: Passive Components; Category Cda900A3Fc9B166E: Potentiometers and Accessories; Category 5C6A91606D4187Ad: Resistors; Rotation: 300°; Power: 200mW; resistance_tolerance: ±20%; Num Pins: 3; Category 69C7A4Cd58F4B200: Potentiometers; helpURL: https://upverter.com/upn/revision/f11aaf2c61d2858c/; ComponentLink2Description: Datasheet; Temperature: -20°C to +70°C; Package: PTH_POT_24MM5_17MM0; Supplier 2: Mouser; Price: 0.563263552357; Supplier 1: Digi-Key; ComponentLink1URL: https://upverter.com/upn/revision/f11aaf2c61d2858c/; Supplier Part Number 2: 858-P160KN0QD15B10K; Supplier Part Number 1: 987-1308-ND; ComponentLink1Description: Upverter; ComponentLink2URL: http://www.ttelectronics.com/sites/default/files/download-files/Datasheet_RotaryPanelPot_P160series.pdf; RoHS: TRUE; Mouser Part Number: 858-P160KN0QD15B10K; Temperature Range High: +70°C; Octopart Part Number: ff213646e5e620e6; Digikey Description: RES 10k Ohm 1 Gang Linear Panel Mount Potentiometer None 1 Turn Conductive Plastic 0.2W, 1/5W PC Pins; Digikey Part Number: 987-1308-ND; Type: resistor; Lead Free: yes; Temperature Range Low: -20°C; Mounting Type: pcb; Symbol 0 0: Potentiometer
footprint Linear Volume
pins: 1 CCW, 2 S, 3 CW

## LIS3DH
designator U?
MEMS digital output motion sensor: ultra low-power high performance 3-axes nano accelerometer; MF: STMicroelectronics; MP: LIS3DSHTR; SnapEDA_Link: https://www.snapeda.com/parts/LIS3DSHTR/STMicroelectronics/view-part/?ref=snap; Availability: Unavailable; Package: LGA-16 STMicroelectronics; Price: None; Value: *
footprint *LGA16R50P5X3_300X300X100N
pins: 1 VDD_IO (power), 4 SCL/SPC (in), 5 GND (power), 6 SDA/SDI/SDO (io), 7 SDO/SEL (out), 8 CS (in), 9 INT2 (in), 10 RES (power), 11 INT1 (in), 12 GND (power), 13 ADC3 (in), 14 VDD (power), 15 ADC2 (in), 16 ADC1 (in)

## LIS3DSHTR
designator U?
MEMS digital output motion sensor: ultra low-power high performance 3-axes nano accelerometer; MF: STMicroelectronics; SnapEDA_Link: https://www.snapeda.com/parts/LIS3DSHTR/STMicroelectronics/view-part/?ref=snap; Availability: Unavailable; Package: LGA-16 STMicroelectronics; MP: LIS3DSHTR; Price: None; Value: *
footprint *LGA16R50P5X3_300X300X100N
pins: 1 VDD_IO (power), 4 SCL/SPC (in), 5 GND (power), 6 SDA/SDI/SDO (io), 7 SDO/SEL (out), 8 CS (in), 9 INT2 (in), 10 RES (in), 11 INT1/DRDY (in), 12 GND (power), 13 GND (power), 14 VDD (power), 15 RES (in), 16 GND (power)

## LM317AEMPX/NOPB
designator U?
1% Accurate, 1.5A Adjustable Linear Regulator with Short Circuit Protection 4-SOT-223 -40 to 125; MF: Texas Instruments; Package: SOT-223-4 Texas Instruments; Digi-Key_Purchase_URL: https://www.digikey.com/product-detail/en/texas-instruments/LM317AEMPX-NOPB/LM317AEMPX-NOPBCT-ND/1010528?utm_source=snapeda&utm_medium=aggregator&utm_campaign=symbol; MP: LM317AEMPX/NOPB; SnapEDA_Link: https://www.snapeda.com/parts/LM317AEMPX/NOPB/Texas%20Instruments/view-part/?ref=snap; Digi-Key_Part_Number: LM317AEMPX/NOPBCT-ND; Value: *
footprint *SOT230P700X180-4N
pins: 1 ADJUST (in), 2 OUTPUT_2 (out), 3 INPUT (in), 4 OUTPUT (out)

## LM321
designator U?
Operational Amplifier 5-SOT-23; MP: OPA354AIDBVT; MF: Texas Instruments; Package: SOT-23-5 Texas Instruments; Digi-Key_Purchase_URL: https://www.digikey.de/product-detail/en/texas-instruments/OPA354AIDBVT/296-13033-1-ND/480149?utm_source=snapeda&utm_medium=aggregator&utm_campaign=symbol; SnapEDA_Link: https://www.snapeda.com/parts/OPA354AIDBVT/Texas%20Instruments/view-part/?ref=snap; Digi-Key_Part_Number: 296-13033-1-ND; Value: *
footprint LM321
pins: 1 1IN+, 2 V-, 3 1IN-, 4 1OUT, 5 V+

## LM358
designator IC?
op amp 8-Pin SOIC; Manufacturer_Name: Texas Instruments; Manufacturer_Part_Number: RC4558DR; Datasheet Link: http://www.ti.com/lit/gpn/rc4558; Height: 1.75mm; Arrow Part Number: RC4558DR; Arrow Price/Stock: https://www.arrow.com/en/products/rc4558dr/texas-instruments; Mouser Part Number: 595-RC4558DR; Mouser Price/Stock: https://www.mouser.co.uk/ProductDetail/Texas-Instruments/RC4558DR?qs=DXdcjUGny5OhrzskaZRdew%3D%3D
footprint LM358
part A pins: 1 1OUT, 2 1IN-, 3 1IN+, 4 VCC-
part B pins: 5 2IN+, 6 2IN-, 7 2OUT, 8 VCC+

## LM358DGKR
designator IC?
Integrated Circuit; Manufacturer_Name: Texas Instruments; Manufacturer_Part_Number: LM358DGKR; Datasheet Link: http://www.ti.com/lit/gpn/lm358; Height: 1.1mm; Arrow Part Number: LM358DGKR; Arrow Price/Stock: https://www.arrow.com/en/products/lm358dgkr/texas-instruments; Mouser Part Number: 595-LM358DGKR; Mouser Price/Stock: https://www.mouser.co.uk/ProductDetail/Texas-Instruments/LM358DGKR?qs=VBduBm9rCJQpfL21a%2FCtGg%3D%3D
footprint LM358DR
pins: 1 1OUT, 2 1IN-, 3 1IN+, 4 GND, 5 2IN+, 6 2IN-, 7 2OUT, 8 VCC

## LM386
designator *
footprint SOIC-8
pins: 1 GAIN1 (in), 2 IN_N (in), 3 IN_P (in), 4 GND (power), 5 VOUT (out), 6 VS (power), 7 BYPASS (out), 8 GAIN2 (in)

## lm393
designator IC?, comment LM3939
Integrated Circuit; Manufacturer_Name: Texas Instruments; Manufacturer_Part_Number: RC4558DR; Datasheet Link: http://www.ti.com/lit/gpn/rc4558; Height: 1.75mm; Arrow Part Number: RC4558DR; Arrow Price/Stock: https://www.arrow.com/en/products/rc4558dr/texas-instruments; Mouser Part Number: 595-RC4558DR; Mouser Price/Stock: https://www.mouser.co.uk/ProductDetail/Texas-Instruments/RC4558DR?qs=DXdcjUGny5OhrzskaZRdew%3D%3D
footprint lm393
part A pins: 1 1OUT, 2 1IN-, 3 1IN+, 4 VCC-
part B pins: 5 2IN+, 6 2IN-, 7 2OUT, 8 VCC+

## LM2596DSADJG
designator U?
LM2596 Series 3 A 150 kHz 40 V Stepdown Switching Regulator-D2PAK; MF: ON Semiconductor; Digi-Key_Part_Number: LM2596DSADJGOS-ND; Package: D2PAK ON Semiconductor; Digi-Key_Purchase_URL: https://www.digikey.com/product-detail/en/on-semiconductor/LM2596DSADJG/LM2596DSADJGOS-ND/2003290?utm_source=snapeda&utm_medium=aggregator&utm_campaign=symbol; MP: LM2596DSADJG; SnapEDA_Link: https://www.snapeda.com/parts/LM2596DSADJG/ON%20Semiconductor/view-part/215074/?ref=snap; Value: *
footprint LM2596DSADJG
pins: 1 VIN (power), 2 OUT (out), 3 GND (power), 4 FB (in), 5 ~{ON}/OFF (in), 6 EXP (power)

## LM4040A82IDBZR
designator U?
LM4040-N Precision Micropower Shunt Voltage Reference
footprint LM4040A82IDBZR
pins: 1 + (power), 2 - (power), 3 NC

## LMC6482IM
designator U?
Integrated Circuit; Manufacturer_Name: Analog Devices; Manufacturer_Part_Number: ADA4666-2ARMZ; Datasheet Link: https://docs-emea.rs-online.com/webdocs/1284/0900766b81284aba.pdf; Height: 1.1mm; Arrow Part Number: ADA4666-2ARMZ; Arrow Price/Stock: https://www.arrow.com/en/products/ada4666-2armz/analog-devices; Mouser Part Number: 584-ADA4666-2ARMZ; Mouser Price/Stock: https://www.mouser.com/Search/Refine.aspx?Keyword=584-ADA4666-2ARMZ
footprint LMC6482IM
part A pins: 1 OUT_A, 2 -IN_A, 3 +IN_A, 4 V- (power)
part B pins: 5 +IN_B, 6 -IN_B, 7 OUT_B, 8 V+

## LMC6482IMM
designator U?
Integrated Circuit; Manufacturer_Name: Analog Devices; Manufacturer_Part_Number: ADA4666-2ARMZ; Datasheet Link: https://docs-emea.rs-online.com/webdocs/1284/0900766b81284aba.pdf; Height: 1.1mm; Arrow Part Number: ADA4666-2ARMZ; Arrow Price/Stock: https://www.arrow.com/en/products/ada4666-2armz/analog-devices; Mouser Part Number: 584-ADA4666-2ARMZ; Mouser Price/Stock: https://www.mouser.com/Search/Refine.aspx?Keyword=584-ADA4666-2ARMZ
footprint LMC6482IMM
part A pins: 1 OUT_A, 2 -IN_A, 3 +IN_A, 4 V- (power)
part B pins: 5 +IN_B, 6 -IN_B, 7 OUT_B, 8 V+

## LP2985A-33DBVT
designator U?
150-mA 16-V low-dropout (LDO) voltage regulator with high-accuracy
footprint SOT-23-5
pins: 1 VIN, 2 GND, 3 ON/OFF, 4 BYPASS, 5 VOUT

## LP3211
designator U?
High Efficiency Step Up Converter; MP: MT3608; MF: Aerosemi Technology Co., Ltd; SnapEDA_Link: https://www.snapeda.com/parts/MT3608/Aerosemi%20Technology%20Co.%2C%20Ltd/view-part/3218014/?ref=snap; Availability: Unavailable; Price: None; Package: Package Analog Devices; Value: *
footprint LP3211S
pins: 1 EN (in), 2 CRY1, 3 GND (power), 4 Vout (out), 5 Vin (in), 6 CRY2

## LTC1763
designator U?, comment ltc1763
ltc1763 ADJ; MF: Microchip; MP: MIC5209YM; Package: SOIC-8 Microchip; Price: None; Availability: Unavailable; SnapEDA_Link: https://www.snapeda.com/parts/MIC5209YM/Microchip/view-part/?ref=snap; Value: *
footprint LTC1763
pins: 1 OUT (out), 2 SENSE/ADJ (in), 3 GND (power), 4 BYP (in), 5 SHDN (power), 6 GND (power), 7 GND (power), 8 IN (in)

## LTC2203IUKPBF
designator U?
Single Channel Single ADC Pipelined 25Msps 16-bit Parallel 48-Pin QFN EP Tube; MF: Analog Devices; MP: LTC2203IUK#PBF; SnapEDA_Link: https://www.snapeda.com/parts/LTC2203IUK%23PBF/Analog%20Devices/view-part/4349060/?ref=snap; Digi-Key_Purchase_URL: https://www.digikey.com/product-detail/en/linear-technology-analog-devices/LTC2203IUK-PBF/LTC2203IUK-PBF-ND/966479?utm_source=snapeda&utm_medium=aggregator&utm_campaign=symbol; Package: QFN -48 Analog Devices; Digi-Key_Part_Number: LTC2203IUK#PBF-ND; Value: *
footprint Ltc2203
pins: 1 SENSE (in), 2 VCM (out), 3 VDD_5 (power), 4 VDD (power), 5 GND, 6 AIN+ (in), 7 AIN- (in), 8 GND_2, 9 GND_3, 10 CLK (in), 11 GND_4, 12 VDD_2 (power), 13 VDD_3 (power), 14 VDD_4 (power), 15 GND_5, 16 SHDN (in), 17 DITH (in), 18 D0 (out), 19 D1 (out), 20 D2 (out), 21 D3 (out), 22 D4 (out), 23 OGND_2, 24 OVDD_2 (power), 25 OVDD_3 (power), 26 D5 (out), 27 D6 (out), 28 D7 (out), 29 CLKOUT- (out), 30 CLKOUT+ (out), 31 OGND_3, 32 D8 (out), 33 D9 (out), 34 D10 (out), 35 D11 (out), 36 OVDD_4 (power), 37 OVDD (power), 38 OGND, 39 D12 (out), 40 D13 (out), 41 D14 (out), 42 D15 (out), 43 OF (out), 44 ~{OE} (in), 45 MODE (in), 46 RAND (in), 47 PGA (in), 48 GND_6, 49 GND_7

## LTC2370CMS
designator U?
16-Bit, 2Msps, Pseudo-Differential Unipolar SAR ADC with 94dB SNR
footprint LTC2370CMS
pins: 1 CHAIN (in), 2 VDD (power), 3 GND (power), 4 IN+ (in), 5 IN- (in), 6 GND (power), 7 REF (power), 8 REF (power), 9 CNV (in), 10 GND (power), 11 BUSY (out), 12 RDL/SDI (in), 13 SCK (in), 14 SDO (out), 15 OVDD (power), 16 GND (power)

## M24C08-RMN6TP
designator U?
EEPROM Serial-I2C, 8Kb _1K x 8_, I-Temp, 1.8V-5.5V, SO8 _150 mil_; MF: STMicroelectronics; Package: SO-8 STMicroelectronics; Availability: Unavailable; Price: None; SnapEDA_Link: https://www.snapeda.com/parts/M24C08-RMN6TP/STMicroelectronics/view-part/?ref=snap; MP: M24C08-RMN6TP; Value: *
footprint *SOIC127P600X175-8N
pins: 1 E0 (in), 2 E1 (in), 3 E2 (in), 4 VSS, 5 SDA (io), 6 SCL (in), 7 ~{WC} (in), 8 VCC (power)

## M25P80
designator U?
8MB Flash memory; Company: Micron
footprint NSO8_N (8-Pin Small Outline Integrated Circuit 1.27 mm Pitch, IPC Medium Density)
pins: 1 S#, 2 DQ1, 3 W#, 4 VSS, 5 DQ0, 6 C, 7 HOLD#, 8 VCC

## M49SMD
designator Y?
M49SMD-24MHz-12pf-10ppm; MP: ECS-130-20-3X-TR; MF: ECS Inc.; Value: *; SnapEDA_Link: https://www.snapeda.com/parts/ECS-130-20-3X-TR/ECS%20Inc./view-part/2459108/?ref=snap; Check_prices: https://www.snapeda.com/parts/ECS-130-20-3X-TR/ECS%20Inc./view-part/2459108/?ref=eda; Purchase-URL: https://pricing.snapeda.com/search/part/ECS-130-20-3X-TR/?ref=eda; Availability: Warning; Price: None; Package: HC49/US ECS International
footprint M49SMD (M49SMD-24MHz-12pf-10ppm 4*7mm)
pins: 1, 2

## M64W503KB40
designator R?
Res Cermet Trimmer 50K Ohm 10% 1/2W 21_Elec_/23_Mech_Turn 2.2mm _9.7 X 5 X 11.1mm_ Pin Thru-Hole Bulk; MF: Vishay; Price: None; Package: TSOP-34836 Vishay; Availability: Unavailable; SnapEDA_Link: https://www.snapeda.com/parts/M64W503KB40/Vishay%20Spectrol/view-part/?ref=snap; MP: M64W503KB40; Value: *
footprint *SIP460W50P254L970H980Q3P
pins: 1 A, 2 B, 3 C

## M9003B
designator Q?, comment M9003B BJT
Bipolar (BJT) Transistor NPN TO-252, (D-Pak); MF: Diodes Inc.; MP: 2DB1184Q-13; SnapEDA_Link: https://www.snapeda.com/parts/2DB1184Q-13/Diodes+Inc./view-part/?ref=snap; Package: TO-252-3 Diodes Inc.; Value: *; Check_prices: https://www.snapeda.com/parts/2DB1184Q-13/Diodes+Inc./view-part/?ref=eda
footprint M9003 BJT (TO255-DPACK)
pins: 1 B, 2 C, 3 E

## MAX690ACSA+
designator U?
Supervisor Integrated Circuit; active-low; 4, 65 V; 1Ã·5.5VDC; SO8; MF: Maxim Integrated; Price: None; Package: SOIC-8 Maxim Integrated; Availability: Unavailable; SnapEDA_Link: https://www.snapeda.com/parts/MAX690ACSA%2B/Maxim%20Integrated/view-part/?ref=snap; MP: MAX690ACSA+; Value: *
footprint *21-0041B_8
pins: 1 VOUT (out), 2 VCC (power), 3 GND (power), 4 PFI (in), 5 *PFO (out), 6 WDI (in), 7 *RESET (out), 8 VBATT (in)

## MAX6675
designator IC
IC THERMOCOUP TO DGTL 8-SOIC; MP: MAX6675; MF: Maxim Integrated; Package: SOIC-8 Maxim Integrated; Availability: Unavailable; Value: *; SnapEDA_Link: https://www.snapeda.com/parts/MAX6675/Maxim%20Integrated/view-part/558569/?ref=snap; Price: None
footprint Max6675
pins: 1 GND (power), 2 T- (in), 3 T+ (in), 4 VCC (power), 5 SCK (in), 6 /CS (in), 7 DO (out)

## MAX7221CWG+T
designator U?
LED Driver 64 Segment 330000uA Supply Current 24-Pin SOIC W T/R; MP: MAX7221CWG+T; MF: Maxim Integrated Products; Purchase-URL: https://pricing.snapeda.com/search/part/MAX7221CWG+T/?ref=eda; SnapEDA_Link: https://www.snapeda.com/parts/MAX7221CWG+T/Maxim+Integrated/view-part/?ref=snap; Price: None; Package: None; Value: *; Check_prices: https://www.snapeda.com/parts/MAX7221CWG+T/Maxim+Integrated/view-part/?ref=eda; Availability: In Stock
footprint MAX7221CWG (SOIC127P1032X265-24N)
pins: 1 DIN (in), 2 DIG_0 (io), 3 DIG_4 (io), 4 GND (power), 5 DIG_6 (io), 6 DIG_2 (io), 7 DIG_3 (io), 8 DIG_7 (io), 9 GND (power), 10 DIG_5 (io), 11 DIG_1 (io), 12 ~{CS} (in), 13 CLK (in), 14 SEG_A (io), 15 SEG_F (io), 16 SEG_B (io), 17 SEG_G (io), 18 ISET (io), 19 V+ (power), 20 SEG_C (io), 21 SEG_E (io), 22 SEG_DP (io), 23 SEG_D (io), 24 DOUT (out)

## MAX31865ATP+
designator U?
Temp Monitoring System _Sensor_ External Sensor SPI Output 20-TQFN _5x5_; MF: Maxim Integrated; MP: MAX31865ATP+T; Availability: Unavailable; SnapEDA_Link: https://www.snapeda.com/parts/MAX31865ATP%2BT/Maxim%20Integrated/view-part/47355/?ref=snap; Price: None; Package: QFN-20 Maxim; Value: *
footprint MAX31865
pins: 1 BIAS (io), 2 REFIN+ (io), 3 REFIN- (io), 4 ISENSOR (io), 5 FORCE+ (io), 6 FORCE2 (io), 7 RTDIN+ (io), 8 RTDIN- (io), 9 FORCE- (io), 10 GND2 (io), 11 SDI (io), 12 SCLK (io), 13 CS (io), 14 SD0 (io), 15 DGND (io), 16 GND1 (io), 17 NC (io), 18 DRDY (io), 19 DVDD (io), 20 VDD (io)

## MB10F
designator BR?
Full Wave Diode Bridge; Published: 8-Jun-2000; Revision: July-2002: Re-released for DXP Platform.; Publisher: Altium Limited
footprint MB10F (BRIDGE RECTIFIER)
pins: 1 K, 2 C, 3 A, 4 C
2 alternate drawings of the same symbol

## MCP1700T-3602E/TT
designator U?
250mA CMOS LDO, Isupply 1uA and 2% VoutAccuracy; MF: Microchip; Package: SOT-23 Microchip; Digi-Key_Purchase_URL: https://www.digikey.com/product-detail/en/microchip-technology/MCP1700T-3602E-TT/MCP1700T-3602E-TTCT-ND/9450516?utm_source=snapeda&utm_medium=aggregator&utm_campaign=symbol; MP: MCP1700T-3602E/TT; Digi-Key_Part_Number: MCP1700T-3602E/TTCT-ND; SnapEDA_Link: https://www.snapeda.com/parts/MCP1700T-3602E/TT/Microchip/view-part/?ref=snap; Value: *
footprint MCP1700
pins: 1 GND, 2 VOUT (out), 3 VIN (in)

## MCP1702T-4702E/CB
designator ?
LDO Regulator Pos 4.7V 0.25A 3-Pin SOT-23A T/R; MF: Microchip; Package: SOT-23 Microchip; MP: MCP1702T-4702E/CB; SnapEDA_Link: https://www.snapeda.com/parts/MCP1702T-4702E/CB/Microchip/view-part/?ref=snap; Availability: Unavailable; Price: None; Value: *
footprint MCP1700T-3602E/MB
pins: 1 GND, 2 VIN (in), 3 VOUT (out)

## MCP4725A0T-E/CH
designator U?
MCP4725 Series 1 Ch I2C EEPROM Memory 5.5 V 12-Bit D/A Converter SMT - SOT-23-6; MF: Microchip; Price: None; MP: MCP4725A0T-E/CH; SnapEDA_Link: https://www.snapeda.com/parts/MCP4725A0T-E/CH/Microchip/view-part/?ref=snap; Package: SOT-23-6 Microchip; Availability: Unavailable; Value: *
footprint MCP4725
pins: 1 VOUT (out), 2 VSS (power), 3 VDD (power), 4 SDA (power), 5 SCL, 6 A0

## MCP16251
designator U?
High Efficiency 1.2MHz / 2A Step Up Converter; MP: MT3608; MF: Aerosemi Technology Co., Ltd; SnapEDA_Link: https://www.snapeda.com/parts/MT3608/Aerosemi%20Technology%20Co.%2C%20Ltd/view-part/3218014/?ref=snap; Availability: Unavailable; Price: None; Package: Package Analog Devices; Value: *
footprint MCP16251
pins: 1 SW (io), 2 GND (power), 3 EN (in), 4 VFB (in), 5 VOUT (power), 6 VIN (power)

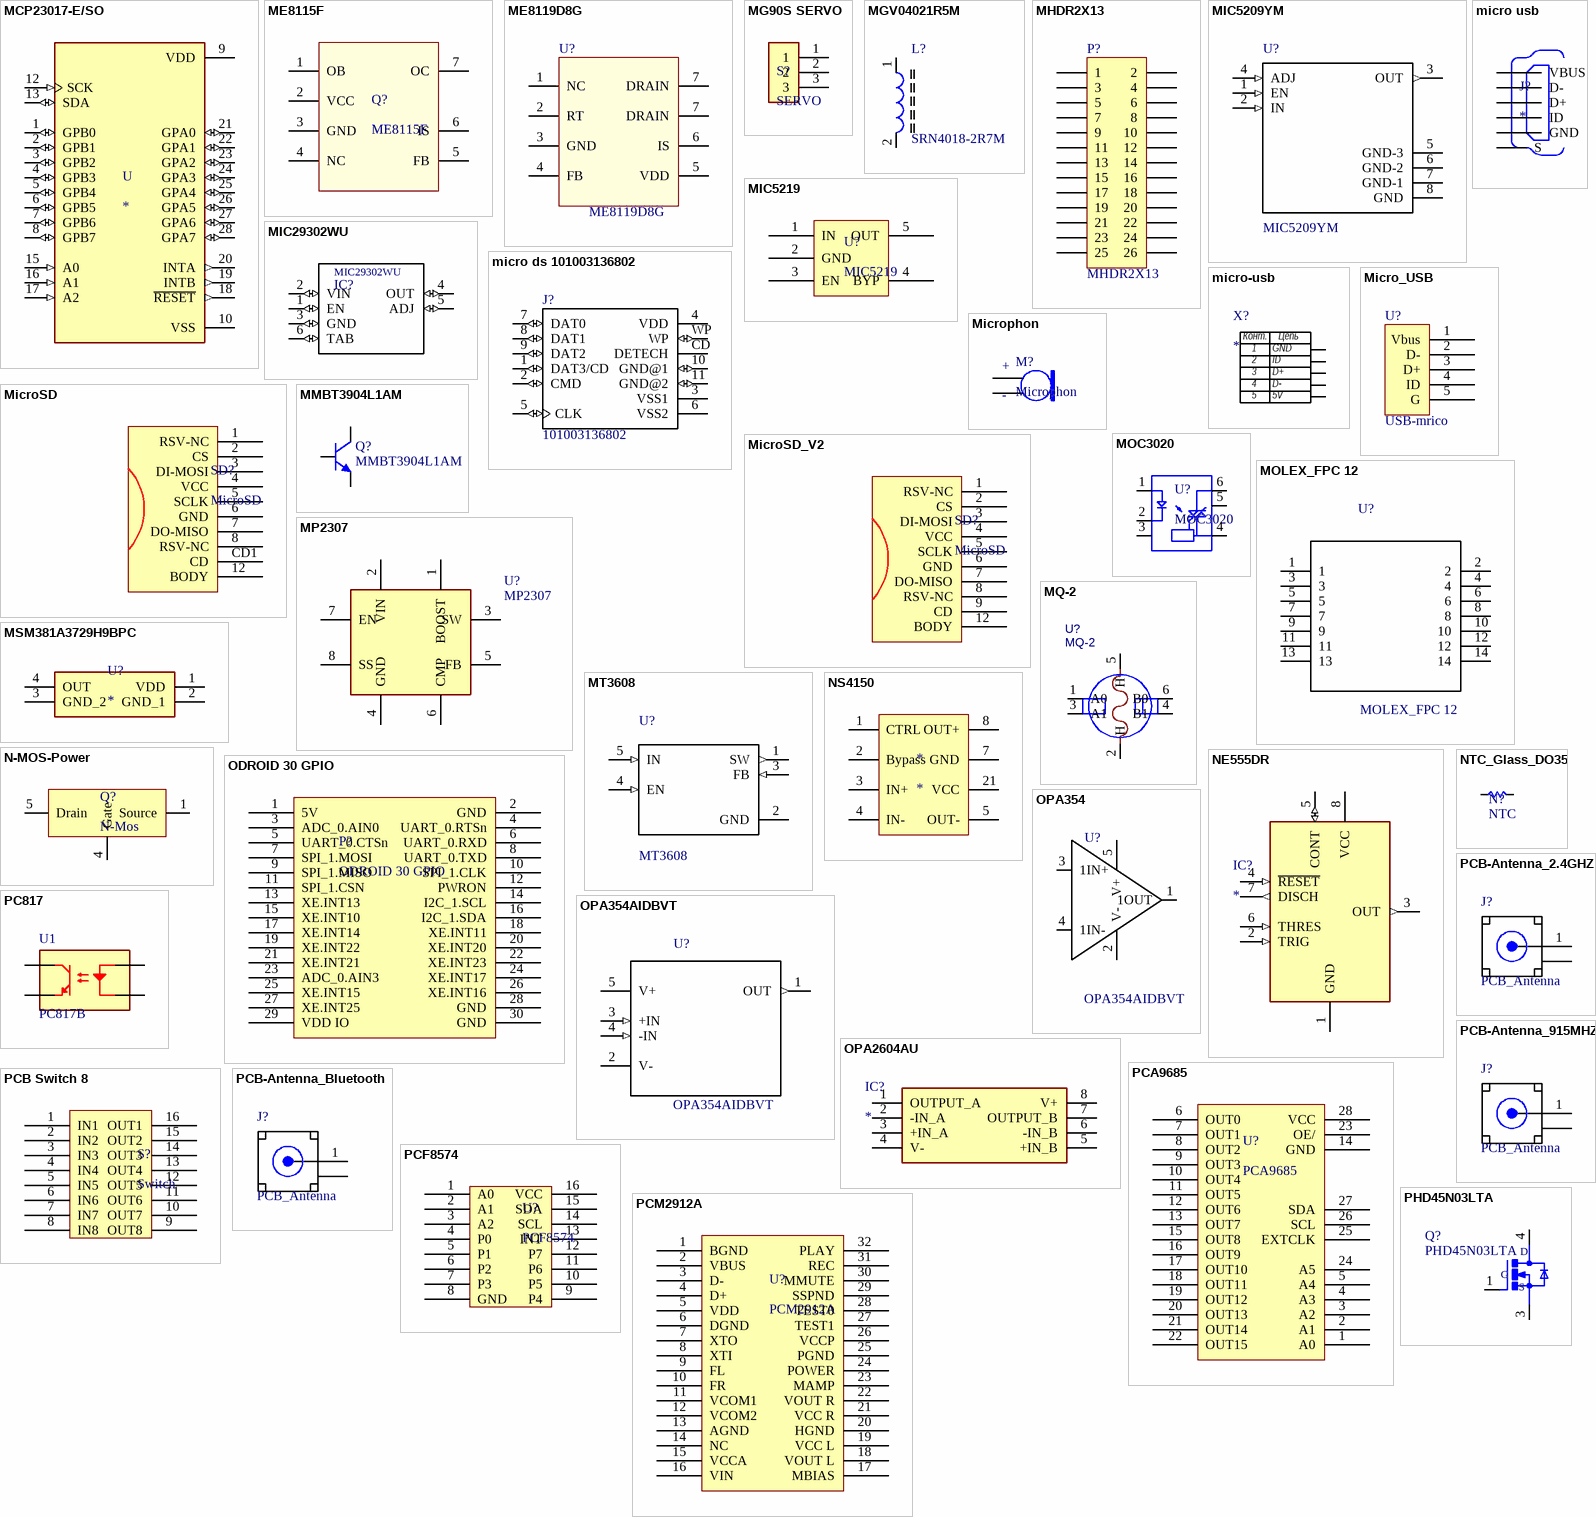
[diagram p10: symbols MCP23017-E/SO to PHD45N03LTA]

## MCP23017-E/SO
designator U
I/O Expander 16 IÂ²C 1.7MHz 28-SOIC; MF: Microchip; MP: MCP23017-E/SO; SnapEDA_Link: https://www.snapeda.com/parts/MCP23017-E/SO/Microchip/view-part/48467/?ref=snap; Price: None; Value: *; Availability: Unavailable; Package: SOIC-28 Microchip
footprint MCP23017
pins: 1 GPB0 (io), 2 GPB1 (io), 3 GPB2 (io), 4 GPB3 (io), 5 GPB4 (io), 6 GPB5 (io), 7 GPB6 (io), 8 GPB7 (io), 9 VDD (power), 10 VSS (power), 12 SCK (in), 13 SDA (io), 15 A0 (in), 16 A1 (in), 17 A2 (in), 18 ~{RESET} (out), 19 INTB (out), 20 INTA (out), 21 GPA0 (io), 22 GPA1 (io), 23 GPA2 (io), 24 GPA3 (io), 25 GPA4 (io), 26 GPA5 (io), 27 GPA6 (io), 28 GPA7 (io)

## ME8115F
designator Q?
PWM Controller of High-performance Current Mode; MF: Toshiba Semiconductor; MP: TPHR8504PL,L1Q; Package: SOP-8 Toshiba; Price: None; Value: *; SnapEDA_Link: https://www.snapeda.com/parts/TPHR8504PL,L1Q/Toshiba%20Semiconductor%20and%20Storage/view-part/604439/?ref=snap; Availability: Unavailable
footprint ME8115F
pins: 1 OB, 2 VCC (power), 3 GND (power), 4 NC, 5 FB, 6 IS, 7 OC

## ME8119D8G
designator U?
PWM Controller of High-performance ME8119D8G DIP8; MF: Toshiba Semiconductor; MP: TPHR8504PL,L1Q; Package: SOP-8 Toshiba; Price: None; Value: *; SnapEDA_Link: https://www.snapeda.com/parts/TPHR8504PL,L1Q/Toshiba%20Semiconductor%20and%20Storage/view-part/604439/?ref=snap; Availability: Unavailable
footprint ME8119D8G (DIP8)
pins: 1 NC, 2 RT (power), 3 GND (power), 4 FB, 5 VDD, 6 IS, 7 DRAIN, 7 DRAIN

## MG90S SERVO
designator S?, comment SERVO
SERVO MOTOR; MP: B4B-XH-A_LF__SN_; MF: JST Sales; Price: None; Package: None; Value: *; Availability: Unavailable; SnapEDA_Link: https://www.snapeda.com/parts/B4B-XH-A%28LF%29%28SN%29/JST%20Sales%20America%20Inc./view-part/447494/?ref=snap
footprint MG90S SERVO MOTOR
pins: 1, 2, 3

## MGV04021R5M
designator L?, comment SRN4018-2R7M
Inductor; Semi-Shielded; Ind 1.5 uH; Tol 20%; Cur-Rtg 4 A; SMT; 1616; MF: Bourns; Availability: Unavailable; Price: None; MP: SRN4018-2R7M; Package: Nonstandard Bourns; SnapEDA_Link: https://www.snapeda.com/parts/SRN4018-2R7M/Bourns/view-part/?ref=snap; Value: *
footprint *INDP4040X180N
pins: 1, 2

## MHDR2X13
designator P?
Header, 13-Pin, Dual row; LatestRevisionDate: 17-Jul-2002; LatestRevisionNote: Re-released for DXP Platform.; Publisher: Altium Limited
footprint HDR2X13 (Connector; Header; 13x2 Position)
signal-integrity model Connector
footprint Model Name (Model Description)
footprint HDR2X13 (Connector; Header; 13x2 Position)
pins: 1, 2, 3, 4, 5, 6, 7, 8, 9, 10, 11, 12, 13, 14, 15, 16, 17, 18, 19, 20, 21, 22, 23, 24, 25, 26

## MIC5209YM
designator U?
MIC5209 Series 500 mA ADJ Output Voltage SMT Low-Noise LDO Regulator - SOIC-8; MF: Microchip; Package: SOIC-8 Microchip; Price: None; Availability: Unavailable; MP: MIC5209YM; SnapEDA_Link: https://www.snapeda.com/parts/MIC5209YM/Microchip/view-part/?ref=snap; Value: *
footprint mic5209
pins: 1 EN (in), 2 IN (in), 3 OUT (out), 4 ADJ (in), 5 GND-3 (power), 6 GND-2 (power), 7 GND-1 (power), 8 GND (power)

## MIC5219
designator U?
500 mA Peak Output LDO Regulator
footprint SOT23_LP5907 (SOT23, 5-Leads, Body 2.88x2.80mm, Pitch 0.95mm, IPC Medium Density)
pins: 1 IN, 2 GND, 3 EN, 4 BYP, 5 OUT

## MIC29302WU
designator IC?  (value not drawn)
Linear Voltage Regulator IC 1 Output 3A TO-263-5; MF: Microchip Technology; MP: MIC29302WU; Price: None; Package: TO-263-6 Microchip Technology; SnapEDA_Link: https://www.snapeda.com/parts/MIC29302WU/Microchip/view-part/4422516/?ref=snap; Availability: Unavailable; Value: *
footprint mic29302
pins: 1 EN (io), 2 VIN (io), 3 GND (io), 4 OUT (io), 5 ADJ (io), 6 TAB (io)

## micro ds 101003136802
designator J?, comment 101003136802
Conn; IC Socket; SD Memory Card; Push/Push; SD Ser.; MF: Amphenol; MP: 101003136802; SnapEDA_Link: https://www.snapeda.com/parts/101003136802/Amphenol/view-part/?ref=snap; Package: None; Price: None; Availability: Unavailable; Value: *
footprint *AMPHENOL_101003136802_101003136802(Primary)
pins: 1 DAT3/CD (io), 2 CMD (io), 3 VSS1 (power), 4 VDD (power), 5 CLK (io), 6 VSS2, 7 DAT0 (io), 8 DAT1 (io), 9 DAT2 (io), 10 GND@1 (io), 11 GND@2 (io), CD DETECH, WP (io)

## micro usb
designator J?
USB - micro AB USB 2.0 Receptacle Connector 5 Position Surface Mount, Right Angle; MF: Amphenol ICC; MP: 10104111-0001LF; Value: *; Price: None; Package: None; SnapEDA_Link: https://www.snapeda.com/parts/10104111-0001LF/Amphenol%20FCI/view-part/2753161/?ref=snap; Availability: Unavailable
footprint micro usb
pins: 1 VBUS (power), 2 D-, 3 D+, 4 ID, 5 GND (power), 6 S (power), 7 S (power), 8 S (power), 9 S (power)

## micro-usb
designator X?
footprint micro-usb
pins: 1, 2, 3, 4, 5
text: Конт.; Цепь; GND; ID; D+; D-; 5V

## Micro_USB
designator U?, comment USB-mrico
footprint micro-usb
pins: 1 Vbus, 2 D-, 3 D+, 4 ID, 5 G

## Microphon
designator M?
MF: CUI Devices; MP: CMEJ-0415-42-P; Digi-Key_Part_Number: 102-6542-ND; Package: CUI Inc.; CUI_purchase_URL: https://www.cuidevices.com/product/audio/microphones/electret-condenser-microphones/cmej-0415-42-p?utm_source=snapeda.com&utm_medium=referral&utm_campaign=snapedaBOM; Digi-Key_Purchase_URL: https://www.digikey.com/product-detail/en/cui-devices/CMEJ-0415-42-P/102-6542-ND/10253451?utm_source=snapeda&utm_medium=aggregator&utm_campaign=symbol; SnapEDA_Link: https://www.snapeda.com/parts/CMEJ-0415-42-P/CUI%20Devices/view-part/3625885/?ref=snap; Value: *
footprint MIC_CMEJ-0415-42-P
pins: N GND, P OUTPUT
text: +; -

## MicroSD
designator SD?
footprint SD_CARD
pins: 1 RSV-NC, 2 CS, 3 DI-MOSI, 4 VCC, 5 SCLK, 6 GND, 7 DO-MISO, 8 RSV-NC, 12 BODY, CD1 CD

## MicroSD_V2
designator SD?, comment MicroSD
footprint SD_CARDSUNTECH_ST-TF-003A_ST-TF-003A
pins: 1 RSV-NC, 2 CS, 3 DI-MOSI, 4 VCC, 5 SCLK, 6 GND, 7 DO-MISO, 8 RSV-NC, 9 CD, 12 BODY

## MMBT3904L1AM
designator Q?
NPN General Purpose Amplifier; Published: 8-Jun-2000; LatestRevisionDate: 15-Jan-2003; LatestRevisionNote: PCB Footprint 'BCY-W3/D4.7' replaced; DatasheetVersion: 1997; PackageVersion: Sep-1998; PackageReference: TO-92A; Publisher: Altium Limited; PackageDescription: TO, Flat Index; 3 In-Line, Axial Leads; Body Dia. 4.5mm; Leads 0.51 x 0.48 mm (max); ComponentLink1Description: Manufacturer Link; ComponentLink1URL: http://www.fairchildsemi.com/; ComponentLink2Description: Datasheet; ComponentLink2URL: http://www.fairchildsemi.com/ds/2N%2F2N3904.pdf
footprint 2N3904 (BJT TRANSISTOR SOT23, 3 pin)
pins: 1 B, 2 E, 3 C

## MOC3020
designator U?
Optoisolator Triac Output 4170Vrms 1 Channel 6-SMD; MP: VOT8026AB-T; Package: None; Price: None; Value: *; Availability: Unavailable
footprint MOC3020
pins: 1 A, 2 C, 3, 4 MT1, 5 NC, 6 MT2

## MOLEX_FPC 12
designator U?
Conn FPC Connector SKT 12 POS 1mm Solder RA SMD Easy-Onâ„¢ Embossed T/R; MF: Molex; MP: 52271-1269; Price: None; Package: None; SnapEDA_Link: https://www.snapeda.com/parts/52271-1269/Molex/view-part/?ref=snap; Availability: Unavailable; Value: *
footprint MOLEX_FPC 12
footprint FPC-12-0.5mm
pins: 1, 2, 3, 4, 5, 6, 7, 8, 9, 10, 11, 12, 13, 14

## MP2307
designator U?
Buck Switching Regulator IC Positive Adjustable 0.925V 1 Output 3A 8-SOIC (0.154, 3.90mm Width) Exposed Pad; MF: Monolithic Power; Price: None; Package: SOIC-8 Monolithic Power; MP: MP2307; Availability: Unavailable; SnapEDA_Link: https://www.snapeda.com/parts/MP2307/Monolithic%20Power%20Systems%20Inc./view-part/2874586/?ref=snap; Value: *
footprint MP2307 (SOIC8)
pins: 1 BOOST, 2 VIN, 3 SW, 4 GND, 5 FB, 6 CMP, 7 EN, 8 SS

## MQ-2
designator U?
Manufacturer: Winsen(炜盛); Supplier: LCSC; Manufacturer Part: MQ-2; Supplier Part: C99296; JLCPCB Part Class: Extended Part; spicePre: U; spiceSymbolName: MQ-2
footprint SENSOR-TH_MQ-2
pins: 1 A0, 2 H, 3 A1, 4 B1, 5 H, 6 B0

## MSM381A3729H9BPC
designator U?
Analog output MEMS microphone
footprint MSM381A3729H9BPC
pins: 1 VDD, 2 GND_1, 3 GND_2, 4 OUT

## MT3608
designator U?
High Efficiency / Step Up Converter; MF: Aerosemi Technology Co., Ltd; SnapEDA_Link: https://www.snapeda.com/parts/MT3608/Aerosemi%20Technology%20Co.%2C%20Ltd/view-part/3218014/?ref=snap; Availability: Unavailable; MP: MT3608; Price: None; Package: Package Analog Devices; Value: *
footprint MT3608
pins: 1 SW (out), 2 GND (power), 3 FB (in), 4 EN (in), 5 IN (in)

## N-MOS-Power
designator Q?, comment N-Mos
footprint DFN5*6
pins: 1 Source, 4 Gate, 5 Drain

## NE555DR
designator IC?
Integrated Circuit; Manufacturer_Name: Texas Instruments; Manufacturer_Part_Number: NE555DR; Datasheet Link: http://www.ti.com/lit/ds/symlink/ne555.pdf; Height: 1.75mm; Mouser Part Number: 595-NE555DR; Mouser Price/Stock: https://www.mouser.com/Search/Refine.aspx?Keyword=595-NE555DR; RS Part Number: 1218414; RS Price/Stock: http://uk.rs-online.com/web/p/products/1218414
footprint NE555DR
pins: 1 GND (power), 2 TRIG (in), 3 OUT (out), 4 ~{RESET} (in), 5 CONT (io), 6 THRES (in), 7 DISCH (out), 8 VCC (power)

## NS4150
designator *
pins: 1 CTRL, 2 Bypass, 3 IN+, 4 IN-, 5 OUT-, 7 GND, 8 OUT+, 21 VCC

## NTC_Glass_DO35
designator N?, comment NTC
NTC_Glass_DO35; Published: 8-Jun-2000; LatestRevisionDate: 29-May-2009; LatestRevisionNote: IPC-7351 Footprint Added.; PackageReference: J1-0603; Publisher: Altium Limited; PackageDescription: Chip Resistor
footprint NTC_Glass_DO35
pins: 1, 2

## ODROID 30 GPIO
designator P?
pins: 1 5V, 2 GND, 3 ADC_0.AIN0, 4 UART_0.RTSn, 5 UART_0.CTSn, 6 UART_0.RXD, 7 SPI_1.MOSI, 8 UART_0.TXD, 9 SPI_1.MISO, 10 SPI_1.CLK, 11 SPI_1.CSN, 12 PWRON, 13 XE.INT13, 14 I2C_1.SCL, 15 XE.INT10, 16 I2C_1.SDA, 17 XE.INT14, 18 XE.INT11, 19 XE.INT22, 20 XE.INT20, 21 XE.INT21, 22 XE.INT23, 23 ADC_0.AIN3, 24 XE.INT17, 25 XE.INT15, 26 XE.INT16, 27 XE.INT25, 28 GND, 29 VDD IO, 30 GND

## OPA354
designator U?, comment OPA354AIDBVT
250MHz, ail-to- ail I/O, CMOS Single Operational Amplifier 5-SOT-23 -40 to 125; MF: Texas Instruments; Package: SOT-23-5 Texas Instruments; Digi-Key_Purchase_URL: https://www.digikey.de/product-detail/en/texas-instruments/OPA354AIDBVT/296-13033-1-ND/480149?utm_source=snapeda&utm_medium=aggregator&utm_campaign=symbol; MP: OPA354AIDBVT; SnapEDA_Link: https://www.snapeda.com/parts/OPA354AIDBVT/Texas%20Instruments/view-part/?ref=snap; Digi-Key_Part_Number: 296-13033-1-ND; Value: *
footprint OPA354
pins: 1 1OUT, 2 V-, 3 1IN+, 4 1IN-, 5 V+

## OPA354AIDBVT
designator U?
250MHz, ail-to- ail I/O, CMOS Single Operational Amplifier 5-SOT-23 -40 to 125; MF: Texas Instruments; Package: SOT-23-5 Texas Instruments; Digi-Key_Purchase_URL: https://www.digikey.de/product-detail/en/texas-instruments/OPA354AIDBVT/296-13033-1-ND/480149?utm_source=snapeda&utm_medium=aggregator&utm_campaign=symbol; MP: OPA354AIDBVT; SnapEDA_Link: https://www.snapeda.com/parts/OPA354AIDBVT/Texas%20Instruments/view-part/?ref=snap; Digi-Key_Part_Number: 296-13033-1-ND; Value: *
footprint OPA354
pins: 1 OUT (out), 2 V- (power), 3 +IN (in), 4 -IN (in), 5 V+ (power)

## OPA2604AU
designator IC?
Integrated Circuit; Manufacturer_Name: Texas Instruments; Manufacturer_Part_Number: OPA2604AU; Datasheet Link: https://media.digikey.com/pdf/Data%20Sheets/Texas%20Instruments%20PDFs/OPA2604.pdf; Height: 1.75mm; Arrow Part Number: OPA2604AU; Arrow Price/Stock: https://www.arrow.com/en/products/opa2604au/texas-instruments; Mouser Part Number: 595-OPA2604AU; Mouser Price/Stock: https://www.mouser.co.uk/ProductDetail/Texas-Instruments/OPA2604AU?qs=7nS3%252BbEUL6uj1K%2FE4kYM7w%3D%3D
footprint OPA2604AU
pins: 1 OUTPUT_A, 2 -IN_A, 3 +IN_A, 4 V-, 5 +IN_B, 6 -IN_B, 7 OUTPUT_B, 8 V+